# Altium schematic symbol library MCU_NXP_S08.SchLib: 189 symbols (part 1 of 3)
Pins are listed as number, name and electrical type; pins without a type are passive.

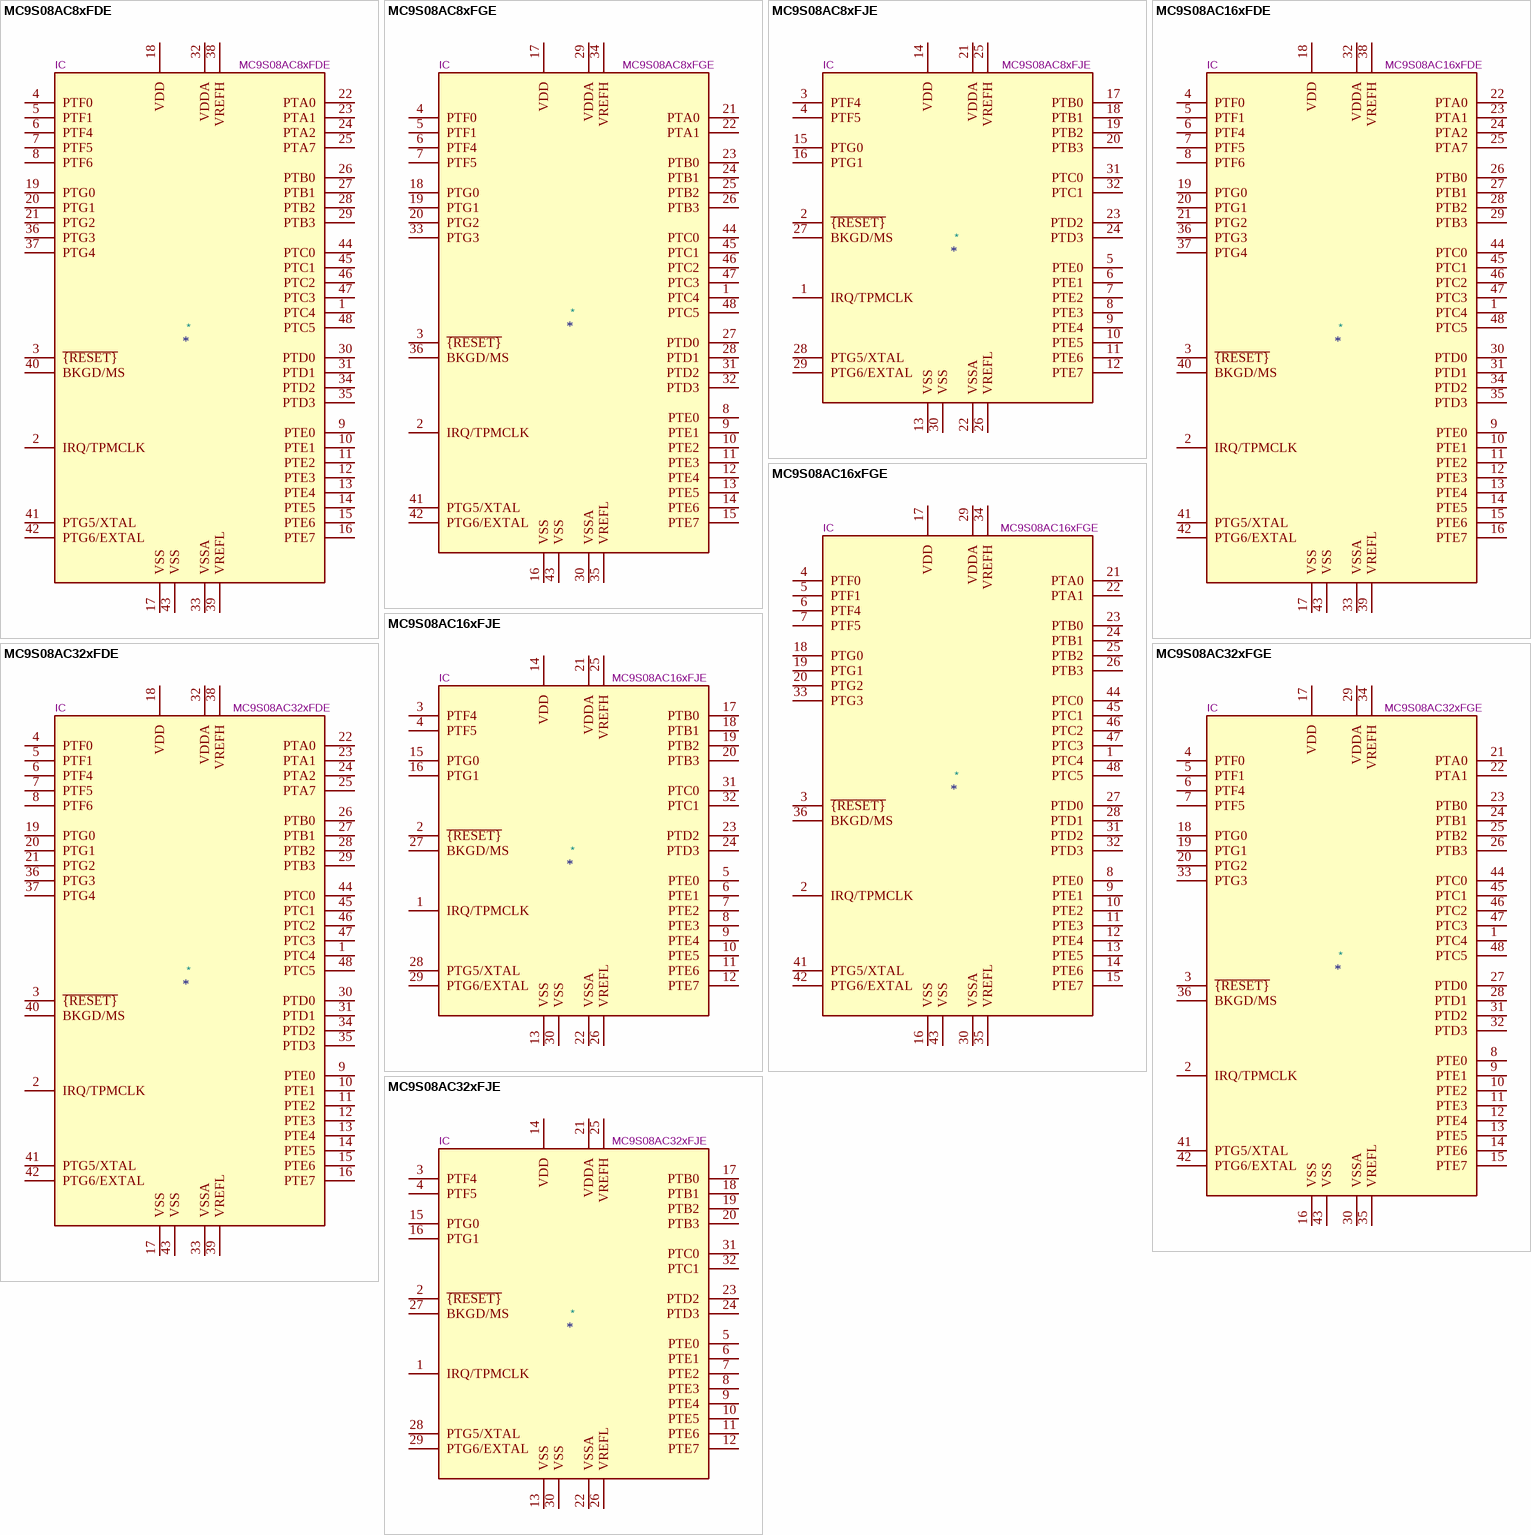
[diagram p0: symbols MC9S08AC8xFDE to MC9S08AC32xFJE]

## MC9S08AC8xFDE
designator *  value MC9S08AC8xFDE  Reference: IC
ki_keywords: NXP S08 Microcontroller; ki_description: 8-bit Flexis Microcontroller, S08 core, 8kB Flash, 768B RAM, QFN-48; ki_fp_filters: QFN*7x7mm*P0.5mm*; Footprint: Package_DFN_QFN:QFN-48-1EP_7x7mm_P0.5mm_EP5.15x5.15mm; Datasheet: https://www.nxp.com/docs/en/data-sheet/MC9S08AC16.pdf
pins: 1 PTC4, 2 IRQ/TPMCLK, 3 ~{{RESET}}, 4 PTF0, 5 PTF1, 6 PTF4, 7 PTF5, 8 PTF6, 9 PTE0, 10 PTE1, 11 PTE2, 12 PTE3, 13 PTE4, 14 PTE5, 15 PTE6, 16 PTE7, 17 VSS, 18 VDD, 19 PTG0, 20 PTG1, 21 PTG2, 22 PTA0, 23 PTA1, 24 PTA2, 25 PTA7, 26 PTB0, 27 PTB1, 28 PTB2, 29 PTB3, 30 PTD0, 31 PTD1, 32 VDDA, 33 VSSA, 34 PTD2, 35 PTD3, 36 PTG3, 37 PTG4, 38 VREFH, 39 VREFL, 40 BKGD/MS, 41 PTG5/XTAL, 42 PTG6/EXTAL, 43 VSS, 44 PTC0, 45 PTC1, 46 PTC2, 47 PTC3, 48 PTC5

## MC9S08AC8xFGE
designator *  value MC9S08AC8xFGE  Reference: IC
ki_keywords: NXP S08 Microcontroller; ki_description: 8-bit Flexis Microcontroller, S08 core, 8kB Flash, 768B RAM, LQFP-44; ki_fp_filters: LQFP*10x10mm*P0.8mm*; Footprint: Package_QFP:LQFP-44_10x10mm_P0.8mm; Datasheet: https://www.nxp.com/docs/en/data-sheet/MC9S08AC16.pdf
pins: 1 PTC4, 2 IRQ/TPMCLK, 3 ~{{RESET}}, 4 PTF0, 5 PTF1, 6 PTF4, 7 PTF5, 8 PTE0, 9 PTE1, 10 PTE2, 11 PTE3, 12 PTE4, 13 PTE5, 14 PTE6, 15 PTE7, 16 VSS, 17 VDD, 18 PTG0, 19 PTG1, 20 PTG2, 21 PTA0, 22 PTA1, 23 PTB0, 24 PTB1, 25 PTB2, 26 PTB3, 27 PTD0, 28 PTD1, 29 VDDA, 30 VSSA, 31 PTD2, 32 PTD3, 33 PTG3, 34 VREFH, 35 VREFL, 36 BKGD/MS, 41 PTG5/XTAL, 42 PTG6/EXTAL, 43 VSS, 44 PTC0, 45 PTC1, 46 PTC2, 47 PTC3, 48 PTC5

## MC9S08AC8xFJE
designator *  value MC9S08AC8xFJE  Reference: IC
ki_keywords: NXP S08 Microcontroller; ki_description: 8-bit Flexis Microcontroller, S08 core, 8kB Flash, 768B RAM, LQFP-32; ki_fp_filters: LQFP*7x7mm*P0.8mm*; Footprint: Package_QFP:LQFP-32_7x7mm_P0.8mm; Datasheet: https://www.nxp.com/docs/en/data-sheet/MC9S08AC16.pdf
pins: 1 IRQ/TPMCLK, 2 ~{{RESET}}, 3 PTF4, 4 PTF5, 5 PTE0, 6 PTE1, 7 PTE2, 8 PTE3, 9 PTE4, 10 PTE5, 11 PTE6, 12 PTE7, 13 VSS, 14 VDD, 15 PTG0, 16 PTG1, 17 PTB0, 18 PTB1, 19 PTB2, 20 PTB3, 21 VDDA, 22 VSSA, 23 PTD2, 24 PTD3, 25 VREFH, 26 VREFL, 27 BKGD/MS, 28 PTG5/XTAL, 29 PTG6/EXTAL, 30 VSS, 31 PTC0, 32 PTC1

## MC9S08AC16xFDE
designator *  value MC9S08AC16xFDE  Reference: IC
ki_keywords: NXP S08 Microcontroller; ki_description: 8-bit Flexis Microcontroller, S08 core, 16kB Flash, 1kB RAM, QFN-48; ki_fp_filters: QFN*7x7mm*P0.5mm*; Footprint: Package_DFN_QFN:QFN-48-1EP_7x7mm_P0.5mm_EP5.15x5.15mm; Datasheet: https://www.nxp.com/docs/en/data-sheet/MC9S08AC16.pdf
pins: 1 PTC4, 2 IRQ/TPMCLK, 3 ~{{RESET}}, 4 PTF0, 5 PTF1, 6 PTF4, 7 PTF5, 8 PTF6, 9 PTE0, 10 PTE1, 11 PTE2, 12 PTE3, 13 PTE4, 14 PTE5, 15 PTE6, 16 PTE7, 17 VSS, 18 VDD, 19 PTG0, 20 PTG1, 21 PTG2, 22 PTA0, 23 PTA1, 24 PTA2, 25 PTA7, 26 PTB0, 27 PTB1, 28 PTB2, 29 PTB3, 30 PTD0, 31 PTD1, 32 VDDA, 33 VSSA, 34 PTD2, 35 PTD3, 36 PTG3, 37 PTG4, 38 VREFH, 39 VREFL, 40 BKGD/MS, 41 PTG5/XTAL, 42 PTG6/EXTAL, 43 VSS, 44 PTC0, 45 PTC1, 46 PTC2, 47 PTC3, 48 PTC5

## MC9S08AC16xFGE
designator *  value MC9S08AC16xFGE  Reference: IC
ki_keywords: NXP S08 Microcontroller; ki_description: 8-bit Flexis Microcontroller, S08 core, 16kB Flash, 1kB RAM, LQFP-44; ki_fp_filters: LQFP*10x10mm*P0.8mm*; Footprint: Package_QFP:LQFP-44_10x10mm_P0.8mm; Datasheet: https://www.nxp.com/docs/en/data-sheet/MC9S08AC16.pdf
pins: 1 PTC4, 2 IRQ/TPMCLK, 3 ~{{RESET}}, 4 PTF0, 5 PTF1, 6 PTF4, 7 PTF5, 8 PTE0, 9 PTE1, 10 PTE2, 11 PTE3, 12 PTE4, 13 PTE5, 14 PTE6, 15 PTE7, 16 VSS, 17 VDD, 18 PTG0, 19 PTG1, 20 PTG2, 21 PTA0, 22 PTA1, 23 PTB0, 24 PTB1, 25 PTB2, 26 PTB3, 27 PTD0, 28 PTD1, 29 VDDA, 30 VSSA, 31 PTD2, 32 PTD3, 33 PTG3, 34 VREFH, 35 VREFL, 36 BKGD/MS, 41 PTG5/XTAL, 42 PTG6/EXTAL, 43 VSS, 44 PTC0, 45 PTC1, 46 PTC2, 47 PTC3, 48 PTC5

## MC9S08AC16xFJE
designator *  value MC9S08AC16xFJE  Reference: IC
ki_keywords: NXP S08 Microcontroller; ki_description: 8-bit Flexis Microcontroller, S08 core, 16kB Flash, 1kB RAM, LQFP-32; ki_fp_filters: LQFP*7x7mm*P0.8mm*; Footprint: Package_QFP:LQFP-32_7x7mm_P0.8mm; Datasheet: https://www.nxp.com/docs/en/data-sheet/MC9S08AC16.pdf
pins: 1 IRQ/TPMCLK, 2 ~{{RESET}}, 3 PTF4, 4 PTF5, 5 PTE0, 6 PTE1, 7 PTE2, 8 PTE3, 9 PTE4, 10 PTE5, 11 PTE6, 12 PTE7, 13 VSS, 14 VDD, 15 PTG0, 16 PTG1, 17 PTB0, 18 PTB1, 19 PTB2, 20 PTB3, 21 VDDA, 22 VSSA, 23 PTD2, 24 PTD3, 25 VREFH, 26 VREFL, 27 BKGD/MS, 28 PTG5/XTAL, 29 PTG6/EXTAL, 30 VSS, 31 PTC0, 32 PTC1

## MC9S08AC32xFDE
designator *  value MC9S08AC32xFDE  Reference: IC
ki_keywords: NXP S08 Microcontroller; ki_description: 8-bit Flexis Microcontroller, S08 core, 32kB Flash, 2kB RAM, QFN-48; ki_fp_filters: QFN*7x7mm*P0.5mm*; Footprint: Package_DFN_QFN:QFN-48-1EP_7x7mm_P0.5mm_EP5.15x5.15mm; Datasheet: https://www.nxp.com/docs/en/data-sheet/MC9S08AC60.pdf
pins: 1 PTC4, 2 IRQ/TPMCLK, 3 ~{{RESET}}, 4 PTF0, 5 PTF1, 6 PTF4, 7 PTF5, 8 PTF6, 9 PTE0, 10 PTE1, 11 PTE2, 12 PTE3, 13 PTE4, 14 PTE5, 15 PTE6, 16 PTE7, 17 VSS, 18 VDD, 19 PTG0, 20 PTG1, 21 PTG2, 22 PTA0, 23 PTA1, 24 PTA2, 25 PTA7, 26 PTB0, 27 PTB1, 28 PTB2, 29 PTB3, 30 PTD0, 31 PTD1, 32 VDDA, 33 VSSA, 34 PTD2, 35 PTD3, 36 PTG3, 37 PTG4, 38 VREFH, 39 VREFL, 40 BKGD/MS, 41 PTG5/XTAL, 42 PTG6/EXTAL, 43 VSS, 44 PTC0, 45 PTC1, 46 PTC2, 47 PTC3, 48 PTC5

## MC9S08AC32xFGE
designator *  value MC9S08AC32xFGE  Reference: IC
ki_keywords: NXP S08 Microcontroller; ki_description: 8-bit Flexis Microcontroller, S08 core, 32kB Flash, 2kB RAM, LQFP-44; ki_fp_filters: LQFP*10x10mm*P0.8mm*; Footprint: Package_QFP:LQFP-44_10x10mm_P0.8mm; Datasheet: https://www.nxp.com/docs/en/data-sheet/MC9S08AC60.pdf
pins: 1 PTC4, 2 IRQ/TPMCLK, 3 ~{{RESET}}, 4 PTF0, 5 PTF1, 6 PTF4, 7 PTF5, 8 PTE0, 9 PTE1, 10 PTE2, 11 PTE3, 12 PTE4, 13 PTE5, 14 PTE6, 15 PTE7, 16 VSS, 17 VDD, 18 PTG0, 19 PTG1, 20 PTG2, 21 PTA0, 22 PTA1, 23 PTB0, 24 PTB1, 25 PTB2, 26 PTB3, 27 PTD0, 28 PTD1, 29 VDDA, 30 VSSA, 31 PTD2, 32 PTD3, 33 PTG3, 34 VREFH, 35 VREFL, 36 BKGD/MS, 41 PTG5/XTAL, 42 PTG6/EXTAL, 43 VSS, 44 PTC0, 45 PTC1, 46 PTC2, 47 PTC3, 48 PTC5

## MC9S08AC32xFJE
designator *  value MC9S08AC32xFJE  Reference: IC
ki_keywords: NXP S08 Microcontroller; ki_description: 8-bit Flexis Microcontroller, S08 core, 32kB Flash, 2kB RAM, LQFP-32; ki_fp_filters: LQFP*7x7mm*P0.8mm*; Footprint: Package_QFP:LQFP-32_7x7mm_P0.8mm; Datasheet: https://www.nxp.com/docs/en/data-sheet/MC9S08AC60.pdf
pins: 1 IRQ/TPMCLK, 2 ~{{RESET}}, 3 PTF4, 4 PTF5, 5 PTE0, 6 PTE1, 7 PTE2, 8 PTE3, 9 PTE4, 10 PTE5, 11 PTE6, 12 PTE7, 13 VSS, 14 VDD, 15 PTG0, 16 PTG1, 17 PTB0, 18 PTB1, 19 PTB2, 20 PTB3, 21 VDDA, 22 VSSA, 23 PTD2, 24 PTD3, 25 VREFH, 26 VREFL, 27 BKGD/MS, 28 PTG5/XTAL, 29 PTG6/EXTAL, 30 VSS, 31 PTC0, 32 PTC1

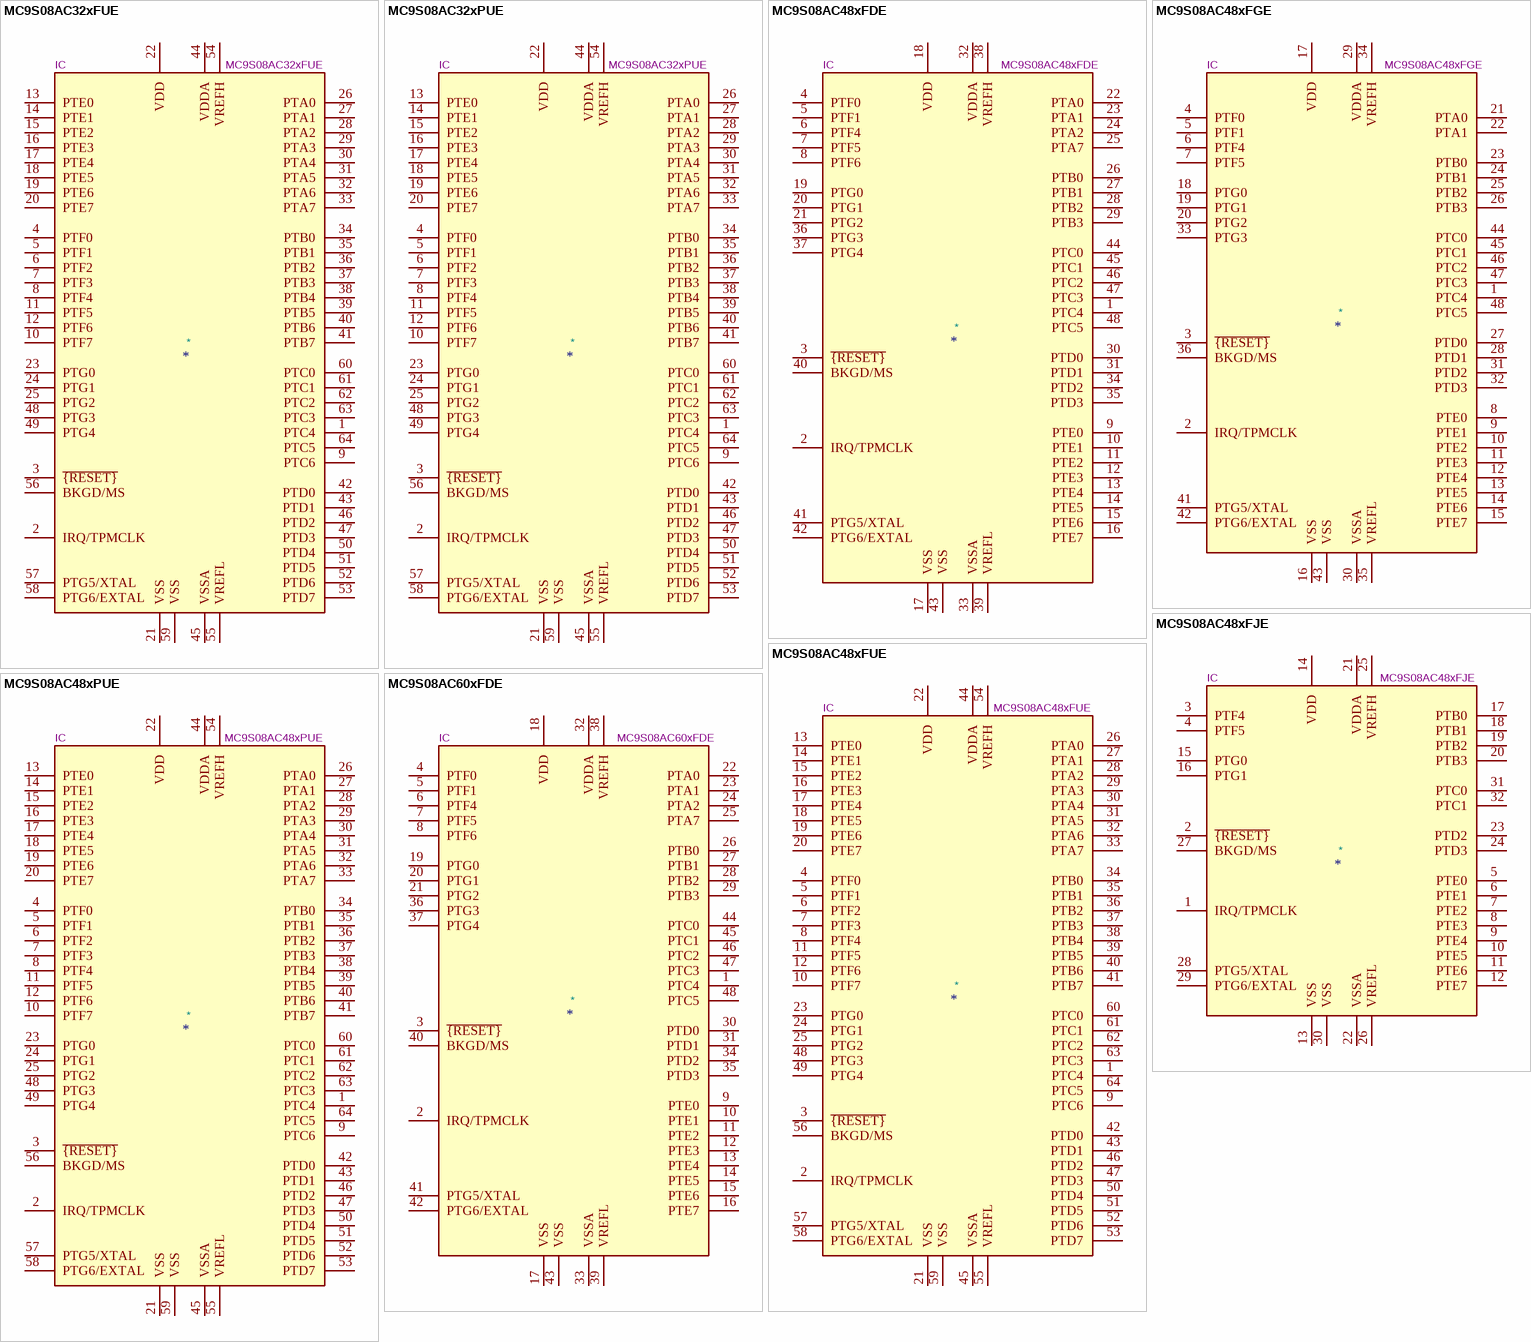
[diagram p1: symbols MC9S08AC32xFUE to MC9S08AC60xFDE]

## MC9S08AC32xFUE
designator *  value MC9S08AC32xFUE  Reference: IC
ki_keywords: NXP S08 Microcontroller; ki_description: 8-bit Flexis Microcontroller, S08 core, 32kB Flash, 2kB RAM, LQFP-64; ki_fp_filters: LQFP*14x14mm*P0.8mm*; Footprint: Package_QFP:LQFP-64_14x14mm_P0.8mm; Datasheet: https://www.nxp.com/docs/en/data-sheet/MC9S08AC60.pdf
pins: 1 PTC4, 2 IRQ/TPMCLK, 3 ~{{RESET}}, 4 PTF0, 5 PTF1, 6 PTF2, 7 PTF3, 8 PTF4, 9 PTC6, 10 PTF7, 11 PTF5, 12 PTF6, 13 PTE0, 14 PTE1, 15 PTE2, 16 PTE3, 17 PTE4, 18 PTE5, 19 PTE6, 20 PTE7, 21 VSS, 22 VDD, 23 PTG0, 24 PTG1, 25 PTG2, 26 PTA0, 27 PTA1, 28 PTA2, 29 PTA3, 30 PTA4, 31 PTA5, 32 PTA6, 33 PTA7, 34 PTB0, 35 PTB1, 36 PTB2, 37 PTB3, 38 PTB4, 39 PTB5, 40 PTB6, 41 PTB7, 42 PTD0, 43 PTD1, 44 VDDA, 45 VSSA, 46 PTD2, 47 PTD3, 48 PTG3, 49 PTG4, 50 PTD4, 51 PTD5, 52 PTD6, 53 PTD7, 54 VREFH, 55 VREFL, 56 BKGD/MS, 57 PTG5/XTAL, 58 PTG6/EXTAL, 59 VSS, 60 PTC0, 61 PTC1, 62 PTC2, 63 PTC3, 64 PTC5

## MC9S08AC32xPUE
designator *  value MC9S08AC32xPUE  Reference: IC
ki_keywords: NXP S08 Microcontroller; ki_description: 8-bit Flexis Microcontroller, S08 core, 32kB Flash, 2kB RAM, LQFP-64; ki_fp_filters: LQFP*10x10mm*P0.5mm*; Footprint: Package_QFP:LQFP-64_10x10mm_P0.5mm; Datasheet: https://www.nxp.com/docs/en/data-sheet/MC9S08AC60.pdf
pins: 1 PTC4, 2 IRQ/TPMCLK, 3 ~{{RESET}}, 4 PTF0, 5 PTF1, 6 PTF2, 7 PTF3, 8 PTF4, 9 PTC6, 10 PTF7, 11 PTF5, 12 PTF6, 13 PTE0, 14 PTE1, 15 PTE2, 16 PTE3, 17 PTE4, 18 PTE5, 19 PTE6, 20 PTE7, 21 VSS, 22 VDD, 23 PTG0, 24 PTG1, 25 PTG2, 26 PTA0, 27 PTA1, 28 PTA2, 29 PTA3, 30 PTA4, 31 PTA5, 32 PTA6, 33 PTA7, 34 PTB0, 35 PTB1, 36 PTB2, 37 PTB3, 38 PTB4, 39 PTB5, 40 PTB6, 41 PTB7, 42 PTD0, 43 PTD1, 44 VDDA, 45 VSSA, 46 PTD2, 47 PTD3, 48 PTG3, 49 PTG4, 50 PTD4, 51 PTD5, 52 PTD6, 53 PTD7, 54 VREFH, 55 VREFL, 56 BKGD/MS, 57 PTG5/XTAL, 58 PTG6/EXTAL, 59 VSS, 60 PTC0, 61 PTC1, 62 PTC2, 63 PTC3, 64 PTC5

## MC9S08AC48xFDE
designator *  value MC9S08AC48xFDE  Reference: IC
ki_keywords: NXP S08 Microcontroller; ki_description: 8-bit Flexis Microcontroller, S08 core, 48kB Flash, 2kB RAM, QFN-48; ki_fp_filters: QFN*7x7mm*P0.5mm*; Footprint: Package_DFN_QFN:QFN-48-1EP_7x7mm_P0.5mm_EP5.15x5.15mm; Datasheet: https://www.nxp.com/docs/en/data-sheet/MC9S08AC60.pdf
pins: 1 PTC4, 2 IRQ/TPMCLK, 3 ~{{RESET}}, 4 PTF0, 5 PTF1, 6 PTF4, 7 PTF5, 8 PTF6, 9 PTE0, 10 PTE1, 11 PTE2, 12 PTE3, 13 PTE4, 14 PTE5, 15 PTE6, 16 PTE7, 17 VSS, 18 VDD, 19 PTG0, 20 PTG1, 21 PTG2, 22 PTA0, 23 PTA1, 24 PTA2, 25 PTA7, 26 PTB0, 27 PTB1, 28 PTB2, 29 PTB3, 30 PTD0, 31 PTD1, 32 VDDA, 33 VSSA, 34 PTD2, 35 PTD3, 36 PTG3, 37 PTG4, 38 VREFH, 39 VREFL, 40 BKGD/MS, 41 PTG5/XTAL, 42 PTG6/EXTAL, 43 VSS, 44 PTC0, 45 PTC1, 46 PTC2, 47 PTC3, 48 PTC5

## MC9S08AC48xFGE
designator *  value MC9S08AC48xFGE  Reference: IC
ki_keywords: NXP S08 Microcontroller; ki_description: 8-bit Flexis Microcontroller, S08 core, 48kB Flash, 2kB RAM, LQFP-44; ki_fp_filters: LQFP*10x10mm*P0.8mm*; Footprint: Package_QFP:LQFP-44_10x10mm_P0.8mm; Datasheet: https://www.nxp.com/docs/en/data-sheet/MC9S08AC60.pdf
pins: 1 PTC4, 2 IRQ/TPMCLK, 3 ~{{RESET}}, 4 PTF0, 5 PTF1, 6 PTF4, 7 PTF5, 8 PTE0, 9 PTE1, 10 PTE2, 11 PTE3, 12 PTE4, 13 PTE5, 14 PTE6, 15 PTE7, 16 VSS, 17 VDD, 18 PTG0, 19 PTG1, 20 PTG2, 21 PTA0, 22 PTA1, 23 PTB0, 24 PTB1, 25 PTB2, 26 PTB3, 27 PTD0, 28 PTD1, 29 VDDA, 30 VSSA, 31 PTD2, 32 PTD3, 33 PTG3, 34 VREFH, 35 VREFL, 36 BKGD/MS, 41 PTG5/XTAL, 42 PTG6/EXTAL, 43 VSS, 44 PTC0, 45 PTC1, 46 PTC2, 47 PTC3, 48 PTC5

## MC9S08AC48xFJE
designator *  value MC9S08AC48xFJE  Reference: IC
ki_keywords: NXP S08 Microcontroller; ki_description: 8-bit Flexis Microcontroller, S08 core, 48kB Flash, 2kB RAM, LQFP-32; ki_fp_filters: LQFP*7x7mm*P0.8mm*; Footprint: Package_QFP:LQFP-32_7x7mm_P0.8mm; Datasheet: https://www.nxp.com/docs/en/data-sheet/MC9S08AC60.pdf
pins: 1 IRQ/TPMCLK, 2 ~{{RESET}}, 3 PTF4, 4 PTF5, 5 PTE0, 6 PTE1, 7 PTE2, 8 PTE3, 9 PTE4, 10 PTE5, 11 PTE6, 12 PTE7, 13 VSS, 14 VDD, 15 PTG0, 16 PTG1, 17 PTB0, 18 PTB1, 19 PTB2, 20 PTB3, 21 VDDA, 22 VSSA, 23 PTD2, 24 PTD3, 25 VREFH, 26 VREFL, 27 BKGD/MS, 28 PTG5/XTAL, 29 PTG6/EXTAL, 30 VSS, 31 PTC0, 32 PTC1

## MC9S08AC48xFUE
designator *  value MC9S08AC48xFUE  Reference: IC
ki_keywords: NXP S08 Microcontroller; ki_description: 8-bit Flexis Microcontroller, S08 core, 48kB Flash, 2kB RAM, LQFP-64; ki_fp_filters: LQFP*14x14mm*P0.8mm*; Footprint: Package_QFP:LQFP-64_14x14mm_P0.8mm; Datasheet: https://www.nxp.com/docs/en/data-sheet/MC9S08AC60.pdf
pins: 1 PTC4, 2 IRQ/TPMCLK, 3 ~{{RESET}}, 4 PTF0, 5 PTF1, 6 PTF2, 7 PTF3, 8 PTF4, 9 PTC6, 10 PTF7, 11 PTF5, 12 PTF6, 13 PTE0, 14 PTE1, 15 PTE2, 16 PTE3, 17 PTE4, 18 PTE5, 19 PTE6, 20 PTE7, 21 VSS, 22 VDD, 23 PTG0, 24 PTG1, 25 PTG2, 26 PTA0, 27 PTA1, 28 PTA2, 29 PTA3, 30 PTA4, 31 PTA5, 32 PTA6, 33 PTA7, 34 PTB0, 35 PTB1, 36 PTB2, 37 PTB3, 38 PTB4, 39 PTB5, 40 PTB6, 41 PTB7, 42 PTD0, 43 PTD1, 44 VDDA, 45 VSSA, 46 PTD2, 47 PTD3, 48 PTG3, 49 PTG4, 50 PTD4, 51 PTD5, 52 PTD6, 53 PTD7, 54 VREFH, 55 VREFL, 56 BKGD/MS, 57 PTG5/XTAL, 58 PTG6/EXTAL, 59 VSS, 60 PTC0, 61 PTC1, 62 PTC2, 63 PTC3, 64 PTC5

## MC9S08AC48xPUE
designator *  value MC9S08AC48xPUE  Reference: IC
ki_keywords: NXP S08 Microcontroller; ki_description: 8-bit Flexis Microcontroller, S08 core, 48kB Flash, 2kB RAM, LQFP-64; ki_fp_filters: LQFP*10x10mm*P0.5mm*; Footprint: Package_QFP:LQFP-64_10x10mm_P0.5mm; Datasheet: https://www.nxp.com/docs/en/data-sheet/MC9S08AC60.pdf
pins: 1 PTC4, 2 IRQ/TPMCLK, 3 ~{{RESET}}, 4 PTF0, 5 PTF1, 6 PTF2, 7 PTF3, 8 PTF4, 9 PTC6, 10 PTF7, 11 PTF5, 12 PTF6, 13 PTE0, 14 PTE1, 15 PTE2, 16 PTE3, 17 PTE4, 18 PTE5, 19 PTE6, 20 PTE7, 21 VSS, 22 VDD, 23 PTG0, 24 PTG1, 25 PTG2, 26 PTA0, 27 PTA1, 28 PTA2, 29 PTA3, 30 PTA4, 31 PTA5, 32 PTA6, 33 PTA7, 34 PTB0, 35 PTB1, 36 PTB2, 37 PTB3, 38 PTB4, 39 PTB5, 40 PTB6, 41 PTB7, 42 PTD0, 43 PTD1, 44 VDDA, 45 VSSA, 46 PTD2, 47 PTD3, 48 PTG3, 49 PTG4, 50 PTD4, 51 PTD5, 52 PTD6, 53 PTD7, 54 VREFH, 55 VREFL, 56 BKGD/MS, 57 PTG5/XTAL, 58 PTG6/EXTAL, 59 VSS, 60 PTC0, 61 PTC1, 62 PTC2, 63 PTC3, 64 PTC5

## MC9S08AC60xFDE
designator *  value MC9S08AC60xFDE  Reference: IC
ki_keywords: NXP S08 Microcontroller; ki_description: 8-bit Flexis Microcontroller, S08 core, 60kB Flash, 2kB RAM, QFN-48; ki_fp_filters: QFN*7x7mm*P0.5mm*; Footprint: Package_DFN_QFN:QFN-48-1EP_7x7mm_P0.5mm_EP5.15x5.15mm; Datasheet: https://www.nxp.com/docs/en/data-sheet/MC9S08AC60.pdf
pins: 1 PTC4, 2 IRQ/TPMCLK, 3 ~{{RESET}}, 4 PTF0, 5 PTF1, 6 PTF4, 7 PTF5, 8 PTF6, 9 PTE0, 10 PTE1, 11 PTE2, 12 PTE3, 13 PTE4, 14 PTE5, 15 PTE6, 16 PTE7, 17 VSS, 18 VDD, 19 PTG0, 20 PTG1, 21 PTG2, 22 PTA0, 23 PTA1, 24 PTA2, 25 PTA7, 26 PTB0, 27 PTB1, 28 PTB2, 29 PTB3, 30 PTD0, 31 PTD1, 32 VDDA, 33 VSSA, 34 PTD2, 35 PTD3, 36 PTG3, 37 PTG4, 38 VREFH, 39 VREFL, 40 BKGD/MS, 41 PTG5/XTAL, 42 PTG6/EXTAL, 43 VSS, 44 PTC0, 45 PTC1, 46 PTC2, 47 PTC3, 48 PTC5

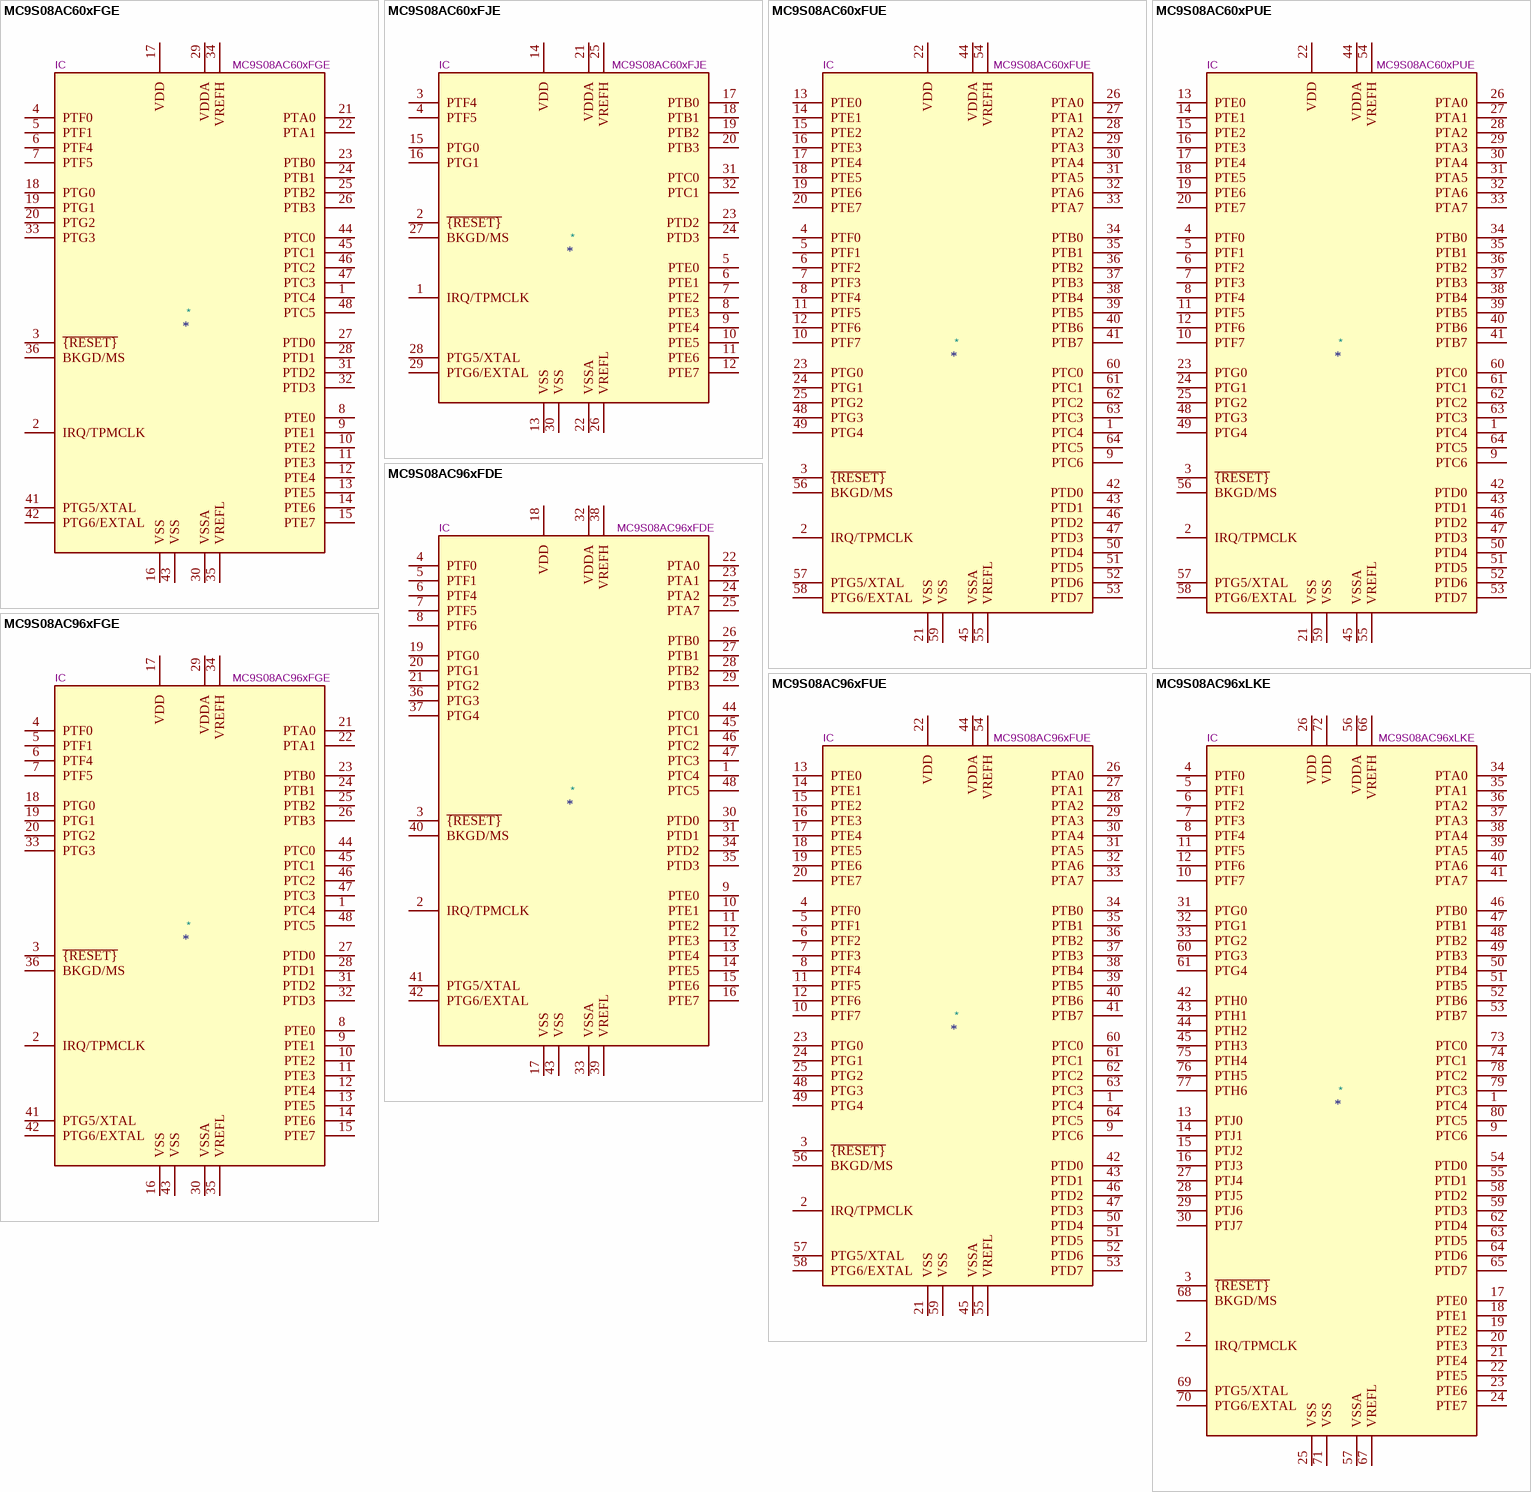
[diagram p2: symbols MC9S08AC60xFGE to MC9S08AC96xLKE]

## MC9S08AC60xFGE
designator *  value MC9S08AC60xFGE  Reference: IC
ki_keywords: NXP S08 Microcontroller; ki_description: 8-bit Flexis Microcontroller, S08 core, 60kB Flash, 2kB RAM, LQFP-44; ki_fp_filters: LQFP*10x10mm*P0.8mm*; Footprint: Package_QFP:LQFP-44_10x10mm_P0.8mm; Datasheet: https://www.nxp.com/docs/en/data-sheet/MC9S08AC60.pdf
pins: 1 PTC4, 2 IRQ/TPMCLK, 3 ~{{RESET}}, 4 PTF0, 5 PTF1, 6 PTF4, 7 PTF5, 8 PTE0, 9 PTE1, 10 PTE2, 11 PTE3, 12 PTE4, 13 PTE5, 14 PTE6, 15 PTE7, 16 VSS, 17 VDD, 18 PTG0, 19 PTG1, 20 PTG2, 21 PTA0, 22 PTA1, 23 PTB0, 24 PTB1, 25 PTB2, 26 PTB3, 27 PTD0, 28 PTD1, 29 VDDA, 30 VSSA, 31 PTD2, 32 PTD3, 33 PTG3, 34 VREFH, 35 VREFL, 36 BKGD/MS, 41 PTG5/XTAL, 42 PTG6/EXTAL, 43 VSS, 44 PTC0, 45 PTC1, 46 PTC2, 47 PTC3, 48 PTC5

## MC9S08AC60xFJE
designator *  value MC9S08AC60xFJE  Reference: IC
ki_keywords: NXP S08 Microcontroller; ki_description: 8-bit Flexis Microcontroller, S08 core, 60kB Flash, 2kB RAM, LQFP-32; ki_fp_filters: LQFP*7x7mm*P0.8mm*; Footprint: Package_QFP:LQFP-32_7x7mm_P0.8mm; Datasheet: https://www.nxp.com/docs/en/data-sheet/MC9S08AC60.pdf
pins: 1 IRQ/TPMCLK, 2 ~{{RESET}}, 3 PTF4, 4 PTF5, 5 PTE0, 6 PTE1, 7 PTE2, 8 PTE3, 9 PTE4, 10 PTE5, 11 PTE6, 12 PTE7, 13 VSS, 14 VDD, 15 PTG0, 16 PTG1, 17 PTB0, 18 PTB1, 19 PTB2, 20 PTB3, 21 VDDA, 22 VSSA, 23 PTD2, 24 PTD3, 25 VREFH, 26 VREFL, 27 BKGD/MS, 28 PTG5/XTAL, 29 PTG6/EXTAL, 30 VSS, 31 PTC0, 32 PTC1

## MC9S08AC60xFUE
designator *  value MC9S08AC60xFUE  Reference: IC
ki_keywords: NXP S08 Microcontroller; ki_description: 8-bit Flexis Microcontroller, S08 core, 60kB Flash, 2kB RAM, LQFP-64; ki_fp_filters: LQFP*14x14mm*P0.8mm*; Footprint: Package_QFP:LQFP-64_14x14mm_P0.8mm; Datasheet: https://www.nxp.com/docs/en/data-sheet/MC9S08AC60.pdf
pins: 1 PTC4, 2 IRQ/TPMCLK, 3 ~{{RESET}}, 4 PTF0, 5 PTF1, 6 PTF2, 7 PTF3, 8 PTF4, 9 PTC6, 10 PTF7, 11 PTF5, 12 PTF6, 13 PTE0, 14 PTE1, 15 PTE2, 16 PTE3, 17 PTE4, 18 PTE5, 19 PTE6, 20 PTE7, 21 VSS, 22 VDD, 23 PTG0, 24 PTG1, 25 PTG2, 26 PTA0, 27 PTA1, 28 PTA2, 29 PTA3, 30 PTA4, 31 PTA5, 32 PTA6, 33 PTA7, 34 PTB0, 35 PTB1, 36 PTB2, 37 PTB3, 38 PTB4, 39 PTB5, 40 PTB6, 41 PTB7, 42 PTD0, 43 PTD1, 44 VDDA, 45 VSSA, 46 PTD2, 47 PTD3, 48 PTG3, 49 PTG4, 50 PTD4, 51 PTD5, 52 PTD6, 53 PTD7, 54 VREFH, 55 VREFL, 56 BKGD/MS, 57 PTG5/XTAL, 58 PTG6/EXTAL, 59 VSS, 60 PTC0, 61 PTC1, 62 PTC2, 63 PTC3, 64 PTC5

## MC9S08AC60xPUE
designator *  value MC9S08AC60xPUE  Reference: IC
ki_keywords: NXP S08 Microcontroller; ki_description: 8-bit Flexis Microcontroller, S08 core, 60kB Flash, 2kB RAM, LQFP-64; ki_fp_filters: LQFP*10x10mm*P0.5mm*; Footprint: Package_QFP:LQFP-64_10x10mm_P0.5mm; Datasheet: https://www.nxp.com/docs/en/data-sheet/MC9S08AC60.pdf
pins: 1 PTC4, 2 IRQ/TPMCLK, 3 ~{{RESET}}, 4 PTF0, 5 PTF1, 6 PTF2, 7 PTF3, 8 PTF4, 9 PTC6, 10 PTF7, 11 PTF5, 12 PTF6, 13 PTE0, 14 PTE1, 15 PTE2, 16 PTE3, 17 PTE4, 18 PTE5, 19 PTE6, 20 PTE7, 21 VSS, 22 VDD, 23 PTG0, 24 PTG1, 25 PTG2, 26 PTA0, 27 PTA1, 28 PTA2, 29 PTA3, 30 PTA4, 31 PTA5, 32 PTA6, 33 PTA7, 34 PTB0, 35 PTB1, 36 PTB2, 37 PTB3, 38 PTB4, 39 PTB5, 40 PTB6, 41 PTB7, 42 PTD0, 43 PTD1, 44 VDDA, 45 VSSA, 46 PTD2, 47 PTD3, 48 PTG3, 49 PTG4, 50 PTD4, 51 PTD5, 52 PTD6, 53 PTD7, 54 VREFH, 55 VREFL, 56 BKGD/MS, 57 PTG5/XTAL, 58 PTG6/EXTAL, 59 VSS, 60 PTC0, 61 PTC1, 62 PTC2, 63 PTC3, 64 PTC5

## MC9S08AC96xFDE
designator *  value MC9S08AC96xFDE  Reference: IC
ki_keywords: NXP S08 Microcontroller; ki_description: 8-bit Flexis Microcontroller, S08 core, 96kB Flash, 6kB RAM, QFN-48; ki_fp_filters: QFN*7x7mm*P0.5mm*; Footprint: Package_DFN_QFN:QFN-48-1EP_7x7mm_P0.5mm_EP5.15x5.15mm; Datasheet: https://www.nxp.com/docs/en/data-sheet/MC9S08AC128.pdf
pins: 1 PTC4, 2 IRQ/TPMCLK, 3 ~{{RESET}}, 4 PTF0, 5 PTF1, 6 PTF4, 7 PTF5, 8 PTF6, 9 PTE0, 10 PTE1, 11 PTE2, 12 PTE3, 13 PTE4, 14 PTE5, 15 PTE6, 16 PTE7, 17 VSS, 18 VDD, 19 PTG0, 20 PTG1, 21 PTG2, 22 PTA0, 23 PTA1, 24 PTA2, 25 PTA7, 26 PTB0, 27 PTB1, 28 PTB2, 29 PTB3, 30 PTD0, 31 PTD1, 32 VDDA, 33 VSSA, 34 PTD2, 35 PTD3, 36 PTG3, 37 PTG4, 38 VREFH, 39 VREFL, 40 BKGD/MS, 41 PTG5/XTAL, 42 PTG6/EXTAL, 43 VSS, 44 PTC0, 45 PTC1, 46 PTC2, 47 PTC3, 48 PTC5

## MC9S08AC96xFGE
designator *  value MC9S08AC96xFGE  Reference: IC
ki_keywords: NXP S08 Microcontroller; ki_description: 8-bit Flexis Microcontroller, S08 core, 96kB Flash, 6kB RAM, LQFP-44; ki_fp_filters: LQFP*10x10mm*P0.8mm*; Footprint: Package_QFP:LQFP-44_10x10mm_P0.8mm; Datasheet: https://www.nxp.com/docs/en/data-sheet/MC9S08AC128.pdf
pins: 1 PTC4, 2 IRQ/TPMCLK, 3 ~{{RESET}}, 4 PTF0, 5 PTF1, 6 PTF4, 7 PTF5, 8 PTE0, 9 PTE1, 10 PTE2, 11 PTE3, 12 PTE4, 13 PTE5, 14 PTE6, 15 PTE7, 16 VSS, 17 VDD, 18 PTG0, 19 PTG1, 20 PTG2, 21 PTA0, 22 PTA1, 23 PTB0, 24 PTB1, 25 PTB2, 26 PTB3, 27 PTD0, 28 PTD1, 29 VDDA, 30 VSSA, 31 PTD2, 32 PTD3, 33 PTG3, 34 VREFH, 35 VREFL, 36 BKGD/MS, 41 PTG5/XTAL, 42 PTG6/EXTAL, 43 VSS, 44 PTC0, 45 PTC1, 46 PTC2, 47 PTC3, 48 PTC5

## MC9S08AC96xFUE
designator *  value MC9S08AC96xFUE  Reference: IC
ki_keywords: NXP S08 Microcontroller; ki_description: 8-bit Flexis Microcontroller, S08 core, 96kB Flash, 6kB RAM, LQFP-64; ki_fp_filters: LQFP*14x14mm*P0.8mm*; Footprint: Package_QFP:LQFP-64_14x14mm_P0.8mm; Datasheet: https://www.nxp.com/docs/en/data-sheet/MC9S08AC128.pdf
pins: 1 PTC4, 2 IRQ/TPMCLK, 3 ~{{RESET}}, 4 PTF0, 5 PTF1, 6 PTF2, 7 PTF3, 8 PTF4, 9 PTC6, 10 PTF7, 11 PTF5, 12 PTF6, 13 PTE0, 14 PTE1, 15 PTE2, 16 PTE3, 17 PTE4, 18 PTE5, 19 PTE6, 20 PTE7, 21 VSS, 22 VDD, 23 PTG0, 24 PTG1, 25 PTG2, 26 PTA0, 27 PTA1, 28 PTA2, 29 PTA3, 30 PTA4, 31 PTA5, 32 PTA6, 33 PTA7, 34 PTB0, 35 PTB1, 36 PTB2, 37 PTB3, 38 PTB4, 39 PTB5, 40 PTB6, 41 PTB7, 42 PTD0, 43 PTD1, 44 VDDA, 45 VSSA, 46 PTD2, 47 PTD3, 48 PTG3, 49 PTG4, 50 PTD4, 51 PTD5, 52 PTD6, 53 PTD7, 54 VREFH, 55 VREFL, 56 BKGD/MS, 57 PTG5/XTAL, 58 PTG6/EXTAL, 59 VSS, 60 PTC0, 61 PTC1, 62 PTC2, 63 PTC3, 64 PTC5

## MC9S08AC96xLKE
designator *  value MC9S08AC96xLKE  Reference: IC
ki_keywords: NXP S08 Microcontroller; ki_description: 8-bit Flexis Microcontroller, S08 core, 96kB Flash, 6kB RAM, LQFP-80; ki_fp_filters: LQFP*12x12mm*P0.5mm*; Footprint: Package_QFP:LQFP-80_12x12mm_P0.5mm; Datasheet: https://www.nxp.com/docs/en/data-sheet/MC9S08AC128.pdf
pins: 1 PTC4, 2 IRQ/TPMCLK, 3 ~{{RESET}}, 4 PTF0, 5 PTF1, 6 PTF2, 7 PTF3, 8 PTF4, 9 PTC6, 10 PTF7, 11 PTF5, 12 PTF6, 13 PTJ0, 14 PTJ1, 15 PTJ2, 16 PTJ3, 17 PTE0, 18 PTE1, 19 PTE2, 20 PTE3, 21 PTE4, 22 PTE5, 23 PTE6, 24 PTE7, 25 VSS, 26 VDD, 27 PTJ4, 28 PTJ5, 29 PTJ6, 30 PTJ7, 31 PTG0, 32 PTG1, 33 PTG2, 34 PTA0, 35 PTA1, 36 PTA2, 37 PTA3, 38 PTA4, 39 PTA5, 40 PTA6, 41 PTA7, 42 PTH0, 43 PTH1, 44 PTH2, 45 PTH3, 46 PTB0, 47 PTB1, 48 PTB2, 49 PTB3, 50 PTB4, 51 PTB5, 52 PTB6, 53 PTB7, 54 PTD0, 55 PTD1, 56 VDDA, 57 VSSA, 58 PTD2, 59 PTD3, 60 PTG3, 61 PTG4, 62 PTD4, 63 PTD5, 64 PTD6, 65 PTD7, 66 VREFH, 67 VREFL, 68 BKGD/MS, 69 PTG5/XTAL, 70 PTG6/EXTAL, 71 VSS, 72 VDD, 73 PTC0, 74 PTC1, 75 PTH4, 76 PTH5, 77 PTH6, 78 PTC2, 79 PTC3, 80 PTC5

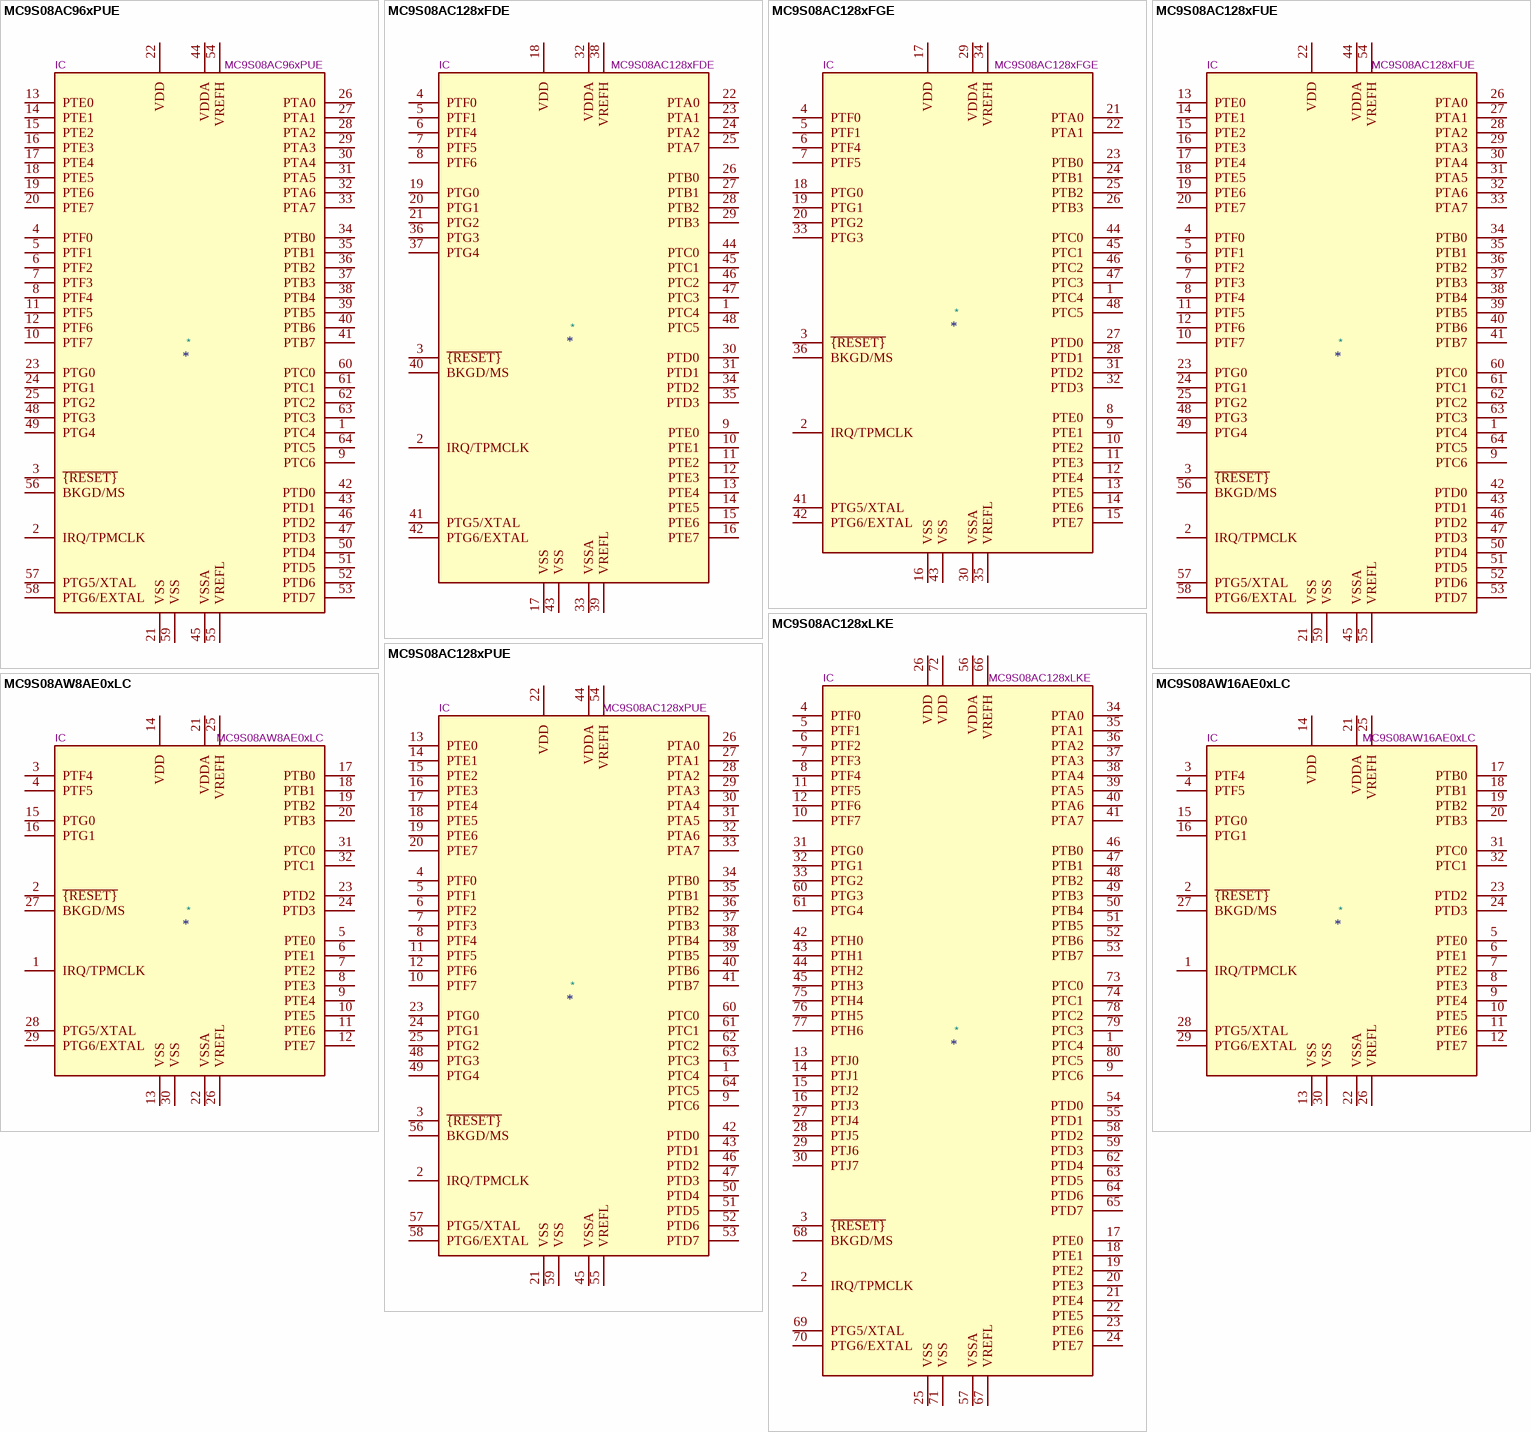
[diagram p3: symbols MC9S08AC96xPUE to MC9S08AW16AE0xLC]

## MC9S08AC96xPUE
designator *  value MC9S08AC96xPUE  Reference: IC
ki_keywords: NXP S08 Microcontroller; ki_description: 8-bit Flexis Microcontroller, S08 core, 96kB Flash, 6kB RAM, LQFP-64; ki_fp_filters: LQFP*10x10mm*P0.5mm*; Footprint: Package_QFP:LQFP-64_10x10mm_P0.5mm; Datasheet: https://www.nxp.com/docs/en/data-sheet/MC9S08AC128.pdf
pins: 1 PTC4, 2 IRQ/TPMCLK, 3 ~{{RESET}}, 4 PTF0, 5 PTF1, 6 PTF2, 7 PTF3, 8 PTF4, 9 PTC6, 10 PTF7, 11 PTF5, 12 PTF6, 13 PTE0, 14 PTE1, 15 PTE2, 16 PTE3, 17 PTE4, 18 PTE5, 19 PTE6, 20 PTE7, 21 VSS, 22 VDD, 23 PTG0, 24 PTG1, 25 PTG2, 26 PTA0, 27 PTA1, 28 PTA2, 29 PTA3, 30 PTA4, 31 PTA5, 32 PTA6, 33 PTA7, 34 PTB0, 35 PTB1, 36 PTB2, 37 PTB3, 38 PTB4, 39 PTB5, 40 PTB6, 41 PTB7, 42 PTD0, 43 PTD1, 44 VDDA, 45 VSSA, 46 PTD2, 47 PTD3, 48 PTG3, 49 PTG4, 50 PTD4, 51 PTD5, 52 PTD6, 53 PTD7, 54 VREFH, 55 VREFL, 56 BKGD/MS, 57 PTG5/XTAL, 58 PTG6/EXTAL, 59 VSS, 60 PTC0, 61 PTC1, 62 PTC2, 63 PTC3, 64 PTC5

## MC9S08AC128xFDE
designator *  value MC9S08AC128xFDE  Reference: IC
ki_keywords: NXP S08 Microcontroller; ki_description: 8-bit Flexis Microcontroller, S08 core, 128kB Flash, 8kB RAM, QFN-48; ki_fp_filters: QFN*7x7mm*P0.5mm*; Footprint: Package_DFN_QFN:QFN-48-1EP_7x7mm_P0.5mm_EP5.15x5.15mm; Datasheet: https://www.nxp.com/docs/en/data-sheet/MC9S08AC128.pdf
pins: 1 PTC4, 2 IRQ/TPMCLK, 3 ~{{RESET}}, 4 PTF0, 5 PTF1, 6 PTF4, 7 PTF5, 8 PTF6, 9 PTE0, 10 PTE1, 11 PTE2, 12 PTE3, 13 PTE4, 14 PTE5, 15 PTE6, 16 PTE7, 17 VSS, 18 VDD, 19 PTG0, 20 PTG1, 21 PTG2, 22 PTA0, 23 PTA1, 24 PTA2, 25 PTA7, 26 PTB0, 27 PTB1, 28 PTB2, 29 PTB3, 30 PTD0, 31 PTD1, 32 VDDA, 33 VSSA, 34 PTD2, 35 PTD3, 36 PTG3, 37 PTG4, 38 VREFH, 39 VREFL, 40 BKGD/MS, 41 PTG5/XTAL, 42 PTG6/EXTAL, 43 VSS, 44 PTC0, 45 PTC1, 46 PTC2, 47 PTC3, 48 PTC5

## MC9S08AC128xFGE
designator *  value MC9S08AC128xFGE  Reference: IC
ki_keywords: NXP S08 Microcontroller; ki_description: 8-bit Flexis Microcontroller, S08 core, 128kB Flash, 8kB RAM, LQFP-44; ki_fp_filters: LQFP*10x10mm*P0.8mm*; Footprint: Package_QFP:LQFP-44_10x10mm_P0.8mm; Datasheet: https://www.nxp.com/docs/en/data-sheet/MC9S08AC128.pdf
pins: 1 PTC4, 2 IRQ/TPMCLK, 3 ~{{RESET}}, 4 PTF0, 5 PTF1, 6 PTF4, 7 PTF5, 8 PTE0, 9 PTE1, 10 PTE2, 11 PTE3, 12 PTE4, 13 PTE5, 14 PTE6, 15 PTE7, 16 VSS, 17 VDD, 18 PTG0, 19 PTG1, 20 PTG2, 21 PTA0, 22 PTA1, 23 PTB0, 24 PTB1, 25 PTB2, 26 PTB3, 27 PTD0, 28 PTD1, 29 VDDA, 30 VSSA, 31 PTD2, 32 PTD3, 33 PTG3, 34 VREFH, 35 VREFL, 36 BKGD/MS, 41 PTG5/XTAL, 42 PTG6/EXTAL, 43 VSS, 44 PTC0, 45 PTC1, 46 PTC2, 47 PTC3, 48 PTC5

## MC9S08AC128xFUE
designator *  value MC9S08AC128xFUE  Reference: IC
ki_keywords: NXP S08 Microcontroller; ki_description: 8-bit Flexis Microcontroller, S08 core, 128kB Flash, 8kB RAM, LQFP-64; ki_fp_filters: LQFP*14x14mm*P0.8mm*; Footprint: Package_QFP:LQFP-64_14x14mm_P0.8mm; Datasheet: https://www.nxp.com/docs/en/data-sheet/MC9S08AC128.pdf
pins: 1 PTC4, 2 IRQ/TPMCLK, 3 ~{{RESET}}, 4 PTF0, 5 PTF1, 6 PTF2, 7 PTF3, 8 PTF4, 9 PTC6, 10 PTF7, 11 PTF5, 12 PTF6, 13 PTE0, 14 PTE1, 15 PTE2, 16 PTE3, 17 PTE4, 18 PTE5, 19 PTE6, 20 PTE7, 21 VSS, 22 VDD, 23 PTG0, 24 PTG1, 25 PTG2, 26 PTA0, 27 PTA1, 28 PTA2, 29 PTA3, 30 PTA4, 31 PTA5, 32 PTA6, 33 PTA7, 34 PTB0, 35 PTB1, 36 PTB2, 37 PTB3, 38 PTB4, 39 PTB5, 40 PTB6, 41 PTB7, 42 PTD0, 43 PTD1, 44 VDDA, 45 VSSA, 46 PTD2, 47 PTD3, 48 PTG3, 49 PTG4, 50 PTD4, 51 PTD5, 52 PTD6, 53 PTD7, 54 VREFH, 55 VREFL, 56 BKGD/MS, 57 PTG5/XTAL, 58 PTG6/EXTAL, 59 VSS, 60 PTC0, 61 PTC1, 62 PTC2, 63 PTC3, 64 PTC5

## MC9S08AC128xLKE
designator *  value MC9S08AC128xLKE  Reference: IC
ki_keywords: NXP S08 Microcontroller; ki_description: 8-bit Flexis Microcontroller, S08 core, 128kB Flash, 8kB RAM, LQFP-80; ki_fp_filters: LQFP*12x12mm*P0.5mm*; Footprint: Package_QFP:LQFP-80_12x12mm_P0.5mm; Datasheet: https://www.nxp.com/docs/en/data-sheet/MC9S08AC128.pdf
pins: 1 PTC4, 2 IRQ/TPMCLK, 3 ~{{RESET}}, 4 PTF0, 5 PTF1, 6 PTF2, 7 PTF3, 8 PTF4, 9 PTC6, 10 PTF7, 11 PTF5, 12 PTF6, 13 PTJ0, 14 PTJ1, 15 PTJ2, 16 PTJ3, 17 PTE0, 18 PTE1, 19 PTE2, 20 PTE3, 21 PTE4, 22 PTE5, 23 PTE6, 24 PTE7, 25 VSS, 26 VDD, 27 PTJ4, 28 PTJ5, 29 PTJ6, 30 PTJ7, 31 PTG0, 32 PTG1, 33 PTG2, 34 PTA0, 35 PTA1, 36 PTA2, 37 PTA3, 38 PTA4, 39 PTA5, 40 PTA6, 41 PTA7, 42 PTH0, 43 PTH1, 44 PTH2, 45 PTH3, 46 PTB0, 47 PTB1, 48 PTB2, 49 PTB3, 50 PTB4, 51 PTB5, 52 PTB6, 53 PTB7, 54 PTD0, 55 PTD1, 56 VDDA, 57 VSSA, 58 PTD2, 59 PTD3, 60 PTG3, 61 PTG4, 62 PTD4, 63 PTD5, 64 PTD6, 65 PTD7, 66 VREFH, 67 VREFL, 68 BKGD/MS, 69 PTG5/XTAL, 70 PTG6/EXTAL, 71 VSS, 72 VDD, 73 PTC0, 74 PTC1, 75 PTH4, 76 PTH5, 77 PTH6, 78 PTC2, 79 PTC3, 80 PTC5

## MC9S08AC128xPUE
designator *  value MC9S08AC128xPUE  Reference: IC
ki_keywords: NXP S08 Microcontroller; ki_description: 8-bit Flexis Microcontroller, S08 core, 128kB Flash, 8kB RAM, LQFP-64; ki_fp_filters: LQFP*10x10mm*P0.5mm*; Footprint: Package_QFP:LQFP-64_10x10mm_P0.5mm; Datasheet: https://www.nxp.com/docs/en/data-sheet/MC9S08AC128.pdf
pins: 1 PTC4, 2 IRQ/TPMCLK, 3 ~{{RESET}}, 4 PTF0, 5 PTF1, 6 PTF2, 7 PTF3, 8 PTF4, 9 PTC6, 10 PTF7, 11 PTF5, 12 PTF6, 13 PTE0, 14 PTE1, 15 PTE2, 16 PTE3, 17 PTE4, 18 PTE5, 19 PTE6, 20 PTE7, 21 VSS, 22 VDD, 23 PTG0, 24 PTG1, 25 PTG2, 26 PTA0, 27 PTA1, 28 PTA2, 29 PTA3, 30 PTA4, 31 PTA5, 32 PTA6, 33 PTA7, 34 PTB0, 35 PTB1, 36 PTB2, 37 PTB3, 38 PTB4, 39 PTB5, 40 PTB6, 41 PTB7, 42 PTD0, 43 PTD1, 44 VDDA, 45 VSSA, 46 PTD2, 47 PTD3, 48 PTG3, 49 PTG4, 50 PTD4, 51 PTD5, 52 PTD6, 53 PTD7, 54 VREFH, 55 VREFL, 56 BKGD/MS, 57 PTG5/XTAL, 58 PTG6/EXTAL, 59 VSS, 60 PTC0, 61 PTC1, 62 PTC2, 63 PTC3, 64 PTC5

## MC9S08AW8AE0xLC
designator *  value MC9S08AW8AE0xLC  Reference: IC
ki_keywords: NXP S08 Microcontroller; ki_description: 8-bit General Purpose Microcontroller, S08 core, 8kB Flash, 768B RAM, LQFP-32; ki_fp_filters: LQFP*7x7mm*P0.8mm*; Footprint: Package_QFP:LQFP-32_7x7mm_P0.8mm; Datasheet: https://www.nxp.com/docs/en/data-sheet/MC9S08AC60.pdf
pins: 1 IRQ/TPMCLK, 2 ~{{RESET}}, 3 PTF4, 4 PTF5, 5 PTE0, 6 PTE1, 7 PTE2, 8 PTE3, 9 PTE4, 10 PTE5, 11 PTE6, 12 PTE7, 13 VSS, 14 VDD, 15 PTG0, 16 PTG1, 17 PTB0, 18 PTB1, 19 PTB2, 20 PTB3, 21 VDDA, 22 VSSA, 23 PTD2, 24 PTD3, 25 VREFH, 26 VREFL, 27 BKGD/MS, 28 PTG5/XTAL, 29 PTG6/EXTAL, 30 VSS, 31 PTC0, 32 PTC1

## MC9S08AW16AE0xLC
designator *  value MC9S08AW16AE0xLC  Reference: IC
ki_keywords: NXP S08 Microcontroller; ki_description: 8-bit General Purpose Microcontroller, S08 core, 96kB Flash, 6kB RAM, LQFP-32; ki_fp_filters: LQFP*7x7mm*P0.8mm*; Footprint: Package_QFP:LQFP-32_7x7mm_P0.8mm; Datasheet: https://www.nxp.com/docs/en/data-sheet/MC9S08AC60.pdf
pins: 1 IRQ/TPMCLK, 2 ~{{RESET}}, 3 PTF4, 4 PTF5, 5 PTE0, 6 PTE1, 7 PTE2, 8 PTE3, 9 PTE4, 10 PTE5, 11 PTE6, 12 PTE7, 13 VSS, 14 VDD, 15 PTG0, 16 PTG1, 17 PTB0, 18 PTB1, 19 PTB2, 20 PTB3, 21 VDDA, 22 VSSA, 23 PTD2, 24 PTD3, 25 VREFH, 26 VREFL, 27 BKGD/MS, 28 PTG5/XTAL, 29 PTG6/EXTAL, 30 VSS, 31 PTC0, 32 PTC1

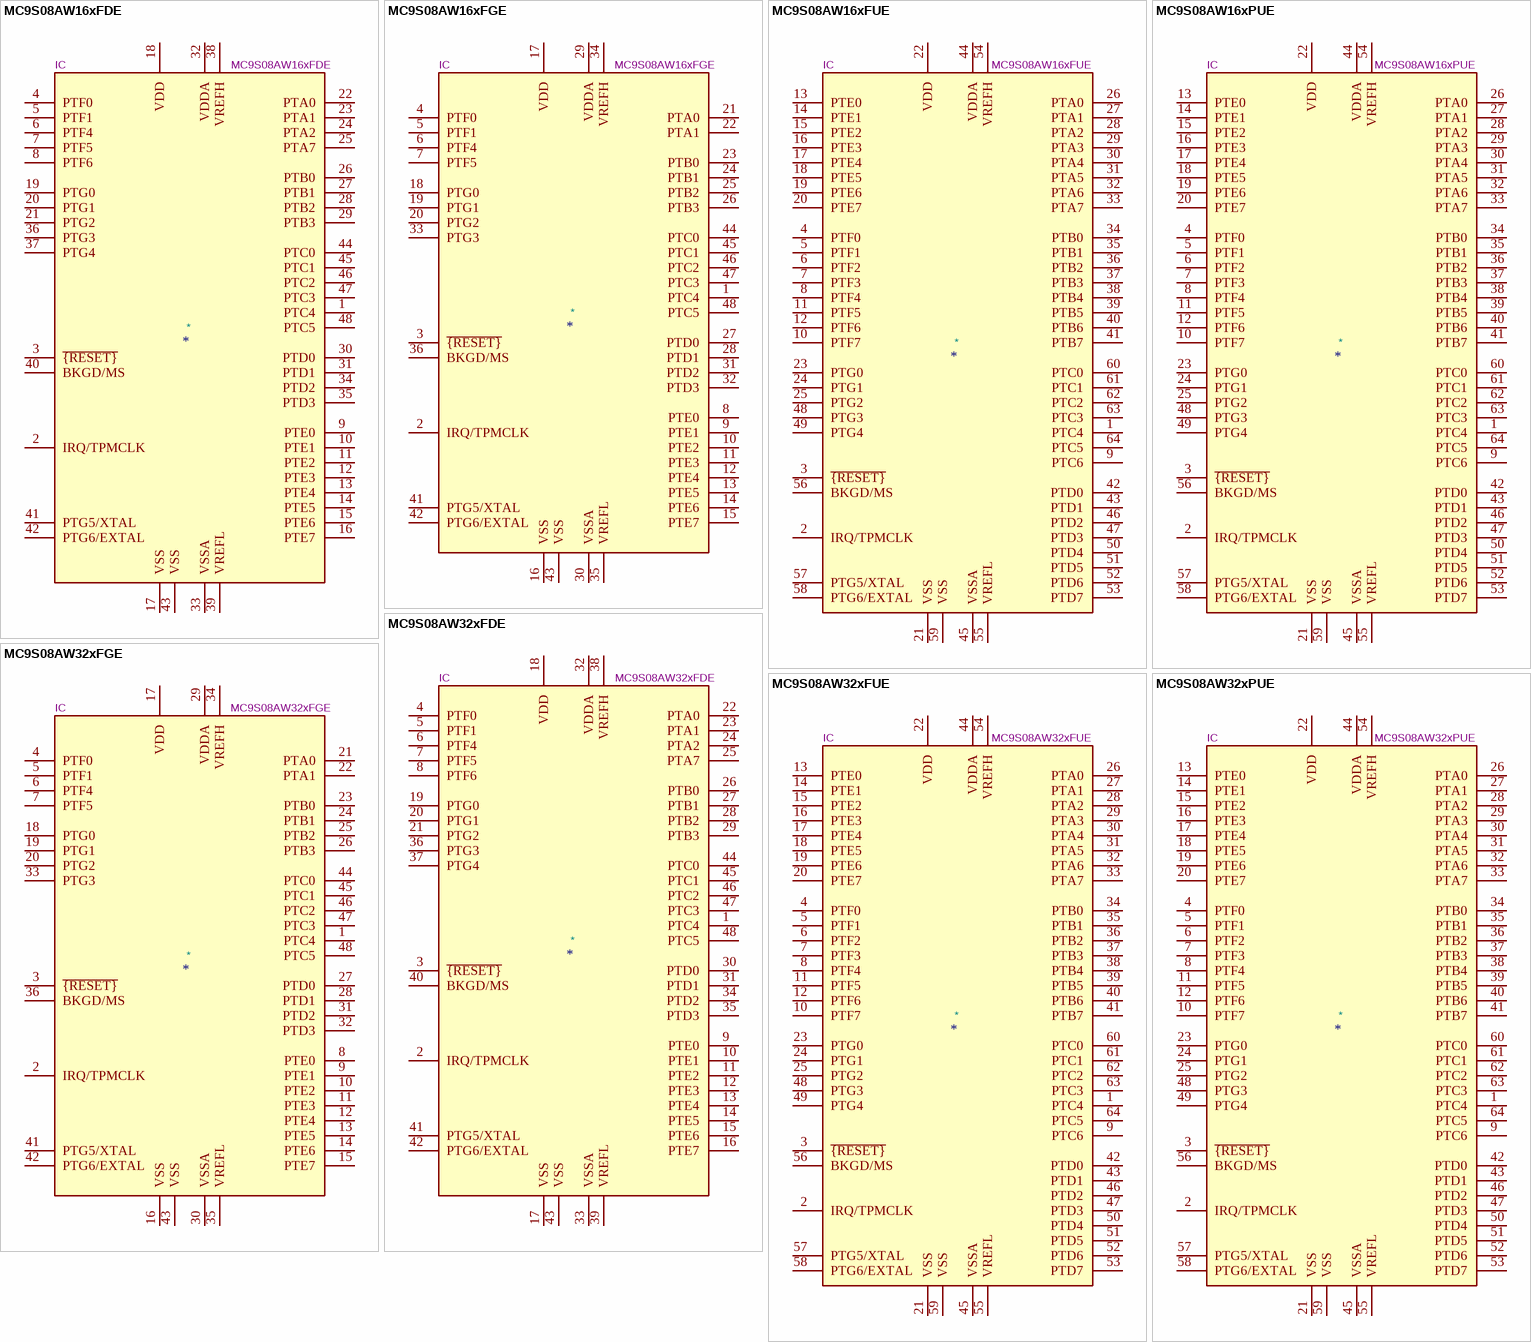
[diagram p4: symbols MC9S08AW16xFDE to MC9S08AW32xPUE]

## MC9S08AW16xFDE
designator *  value MC9S08AW16xFDE  Reference: IC
ki_keywords: NXP S08 Microcontroller; ki_description: 8-bit General Purpose Microcontroller, S08 core, 16kB Flash, 1kB RAM, QFN-48; ki_fp_filters: QFN*7x7mm*P0.5mm*; Footprint: Package_DFN_QFN:QFN-48-1EP_7x7mm_P0.5mm_EP5.15x5.15mm; Datasheet: https://www.nxp.com/docs/en/data-sheet/MC9S08AW60.pdf
pins: 1 PTC4, 2 IRQ/TPMCLK, 3 ~{{RESET}}, 4 PTF0, 5 PTF1, 6 PTF4, 7 PTF5, 8 PTF6, 9 PTE0, 10 PTE1, 11 PTE2, 12 PTE3, 13 PTE4, 14 PTE5, 15 PTE6, 16 PTE7, 17 VSS, 18 VDD, 19 PTG0, 20 PTG1, 21 PTG2, 22 PTA0, 23 PTA1, 24 PTA2, 25 PTA7, 26 PTB0, 27 PTB1, 28 PTB2, 29 PTB3, 30 PTD0, 31 PTD1, 32 VDDA, 33 VSSA, 34 PTD2, 35 PTD3, 36 PTG3, 37 PTG4, 38 VREFH, 39 VREFL, 40 BKGD/MS, 41 PTG5/XTAL, 42 PTG6/EXTAL, 43 VSS, 44 PTC0, 45 PTC1, 46 PTC2, 47 PTC3, 48 PTC5

## MC9S08AW16xFGE
designator *  value MC9S08AW16xFGE  Reference: IC
ki_keywords: NXP S08 Microcontroller; ki_description: 8-bit General Purpose Microcontroller, S08 core, 16kB Flash, 1kB RAM, LQFP-44; ki_fp_filters: LQFP*10x10mm*P0.8mm*; Footprint: Package_QFP:LQFP-44_10x10mm_P0.8mm; Datasheet: https://www.nxp.com/docs/en/data-sheet/MC9S08AW60.pdf
pins: 1 PTC4, 2 IRQ/TPMCLK, 3 ~{{RESET}}, 4 PTF0, 5 PTF1, 6 PTF4, 7 PTF5, 8 PTE0, 9 PTE1, 10 PTE2, 11 PTE3, 12 PTE4, 13 PTE5, 14 PTE6, 15 PTE7, 16 VSS, 17 VDD, 18 PTG0, 19 PTG1, 20 PTG2, 21 PTA0, 22 PTA1, 23 PTB0, 24 PTB1, 25 PTB2, 26 PTB3, 27 PTD0, 28 PTD1, 29 VDDA, 30 VSSA, 31 PTD2, 32 PTD3, 33 PTG3, 34 VREFH, 35 VREFL, 36 BKGD/MS, 41 PTG5/XTAL, 42 PTG6/EXTAL, 43 VSS, 44 PTC0, 45 PTC1, 46 PTC2, 47 PTC3, 48 PTC5

## MC9S08AW16xFUE
designator *  value MC9S08AW16xFUE  Reference: IC
ki_keywords: NXP S08 Microcontroller; ki_description: 8-bit General Purpose Microcontroller, S08 core, 16kB Flash, 1kB RAM, LQFP-64; ki_fp_filters: LQFP*14x14mm*P0.8mm*; Footprint: Package_QFP:LQFP-64_14x14mm_P0.8mm; Datasheet: https://www.nxp.com/docs/en/data-sheet/MC9S08AW60.pdf
pins: 1 PTC4, 2 IRQ/TPMCLK, 3 ~{{RESET}}, 4 PTF0, 5 PTF1, 6 PTF2, 7 PTF3, 8 PTF4, 9 PTC6, 10 PTF7, 11 PTF5, 12 PTF6, 13 PTE0, 14 PTE1, 15 PTE2, 16 PTE3, 17 PTE4, 18 PTE5, 19 PTE6, 20 PTE7, 21 VSS, 22 VDD, 23 PTG0, 24 PTG1, 25 PTG2, 26 PTA0, 27 PTA1, 28 PTA2, 29 PTA3, 30 PTA4, 31 PTA5, 32 PTA6, 33 PTA7, 34 PTB0, 35 PTB1, 36 PTB2, 37 PTB3, 38 PTB4, 39 PTB5, 40 PTB6, 41 PTB7, 42 PTD0, 43 PTD1, 44 VDDA, 45 VSSA, 46 PTD2, 47 PTD3, 48 PTG3, 49 PTG4, 50 PTD4, 51 PTD5, 52 PTD6, 53 PTD7, 54 VREFH, 55 VREFL, 56 BKGD/MS, 57 PTG5/XTAL, 58 PTG6/EXTAL, 59 VSS, 60 PTC0, 61 PTC1, 62 PTC2, 63 PTC3, 64 PTC5

## MC9S08AW16xPUE
designator *  value MC9S08AW16xPUE  Reference: IC
ki_keywords: NXP S08 Microcontroller; ki_description: 8-bit General Purpose Microcontroller, S08 core, 16kB Flash, 1kB RAM, LQFP-64; ki_fp_filters: LQFP*10x10mm*P0.5mm*; Footprint: Package_QFP:LQFP-64_10x10mm_P0.5mm; Datasheet: https://www.nxp.com/docs/en/data-sheet/MC9S08AW60.pdf
pins: 1 PTC4, 2 IRQ/TPMCLK, 3 ~{{RESET}}, 4 PTF0, 5 PTF1, 6 PTF2, 7 PTF3, 8 PTF4, 9 PTC6, 10 PTF7, 11 PTF5, 12 PTF6, 13 PTE0, 14 PTE1, 15 PTE2, 16 PTE3, 17 PTE4, 18 PTE5, 19 PTE6, 20 PTE7, 21 VSS, 22 VDD, 23 PTG0, 24 PTG1, 25 PTG2, 26 PTA0, 27 PTA1, 28 PTA2, 29 PTA3, 30 PTA4, 31 PTA5, 32 PTA6, 33 PTA7, 34 PTB0, 35 PTB1, 36 PTB2, 37 PTB3, 38 PTB4, 39 PTB5, 40 PTB6, 41 PTB7, 42 PTD0, 43 PTD1, 44 VDDA, 45 VSSA, 46 PTD2, 47 PTD3, 48 PTG3, 49 PTG4, 50 PTD4, 51 PTD5, 52 PTD6, 53 PTD7, 54 VREFH, 55 VREFL, 56 BKGD/MS, 57 PTG5/XTAL, 58 PTG6/EXTAL, 59 VSS, 60 PTC0, 61 PTC1, 62 PTC2, 63 PTC3, 64 PTC5

## MC9S08AW32xFDE
designator *  value MC9S08AW32xFDE  Reference: IC
ki_keywords: NXP S08 Microcontroller; ki_description: 8-bit General Purpose Microcontroller, S08 core, 32kB Flash, 2kB RAM, QFN-48; ki_fp_filters: QFN*7x7mm*P0.5mm*; Footprint: Package_DFN_QFN:QFN-48-1EP_7x7mm_P0.5mm_EP5.15x5.15mm; Datasheet: https://www.nxp.com/docs/en/data-sheet/MC9S08AW60.pdf
pins: 1 PTC4, 2 IRQ/TPMCLK, 3 ~{{RESET}}, 4 PTF0, 5 PTF1, 6 PTF4, 7 PTF5, 8 PTF6, 9 PTE0, 10 PTE1, 11 PTE2, 12 PTE3, 13 PTE4, 14 PTE5, 15 PTE6, 16 PTE7, 17 VSS, 18 VDD, 19 PTG0, 20 PTG1, 21 PTG2, 22 PTA0, 23 PTA1, 24 PTA2, 25 PTA7, 26 PTB0, 27 PTB1, 28 PTB2, 29 PTB3, 30 PTD0, 31 PTD1, 32 VDDA, 33 VSSA, 34 PTD2, 35 PTD3, 36 PTG3, 37 PTG4, 38 VREFH, 39 VREFL, 40 BKGD/MS, 41 PTG5/XTAL, 42 PTG6/EXTAL, 43 VSS, 44 PTC0, 45 PTC1, 46 PTC2, 47 PTC3, 48 PTC5

## MC9S08AW32xFGE
designator *  value MC9S08AW32xFGE  Reference: IC
ki_keywords: NXP S08 Microcontroller; ki_description: 8-bit General Purpose Microcontroller, S08 core, 32kB Flash, 2kB RAM, LQFP-44; ki_fp_filters: LQFP*10x10mm*P0.8mm*; Footprint: Package_QFP:LQFP-44_10x10mm_P0.8mm; Datasheet: https://www.nxp.com/docs/en/data-sheet/MC9S08AW60.pdf
pins: 1 PTC4, 2 IRQ/TPMCLK, 3 ~{{RESET}}, 4 PTF0, 5 PTF1, 6 PTF4, 7 PTF5, 8 PTE0, 9 PTE1, 10 PTE2, 11 PTE3, 12 PTE4, 13 PTE5, 14 PTE6, 15 PTE7, 16 VSS, 17 VDD, 18 PTG0, 19 PTG1, 20 PTG2, 21 PTA0, 22 PTA1, 23 PTB0, 24 PTB1, 25 PTB2, 26 PTB3, 27 PTD0, 28 PTD1, 29 VDDA, 30 VSSA, 31 PTD2, 32 PTD3, 33 PTG3, 34 VREFH, 35 VREFL, 36 BKGD/MS, 41 PTG5/XTAL, 42 PTG6/EXTAL, 43 VSS, 44 PTC0, 45 PTC1, 46 PTC2, 47 PTC3, 48 PTC5

## MC9S08AW32xFUE
designator *  value MC9S08AW32xFUE  Reference: IC
ki_keywords: NXP S08 Microcontroller; ki_description: 8-bit General Purpose Microcontroller, S08 core, 32kB Flash, 2kB RAM, LQFP-64; ki_fp_filters: LQFP*14x14mm*P0.8mm*; Footprint: Package_QFP:LQFP-64_14x14mm_P0.8mm; Datasheet: https://www.nxp.com/docs/en/data-sheet/MC9S08AW60.pdf
pins: 1 PTC4, 2 IRQ/TPMCLK, 3 ~{{RESET}}, 4 PTF0, 5 PTF1, 6 PTF2, 7 PTF3, 8 PTF4, 9 PTC6, 10 PTF7, 11 PTF5, 12 PTF6, 13 PTE0, 14 PTE1, 15 PTE2, 16 PTE3, 17 PTE4, 18 PTE5, 19 PTE6, 20 PTE7, 21 VSS, 22 VDD, 23 PTG0, 24 PTG1, 25 PTG2, 26 PTA0, 27 PTA1, 28 PTA2, 29 PTA3, 30 PTA4, 31 PTA5, 32 PTA6, 33 PTA7, 34 PTB0, 35 PTB1, 36 PTB2, 37 PTB3, 38 PTB4, 39 PTB5, 40 PTB6, 41 PTB7, 42 PTD0, 43 PTD1, 44 VDDA, 45 VSSA, 46 PTD2, 47 PTD3, 48 PTG3, 49 PTG4, 50 PTD4, 51 PTD5, 52 PTD6, 53 PTD7, 54 VREFH, 55 VREFL, 56 BKGD/MS, 57 PTG5/XTAL, 58 PTG6/EXTAL, 59 VSS, 60 PTC0, 61 PTC1, 62 PTC2, 63 PTC3, 64 PTC5

## MC9S08AW32xPUE
designator *  value MC9S08AW32xPUE  Reference: IC
ki_keywords: NXP S08 Microcontroller; ki_description: 8-bit General Purpose Microcontroller, S08 core, 32kB Flash, 2kB RAM, LQFP-64; ki_fp_filters: LQFP*10x10mm*P0.5mm*; Footprint: Package_QFP:LQFP-64_10x10mm_P0.5mm; Datasheet: https://www.nxp.com/docs/en/data-sheet/MC9S08AW60.pdf
pins: 1 PTC4, 2 IRQ/TPMCLK, 3 ~{{RESET}}, 4 PTF0, 5 PTF1, 6 PTF2, 7 PTF3, 8 PTF4, 9 PTC6, 10 PTF7, 11 PTF5, 12 PTF6, 13 PTE0, 14 PTE1, 15 PTE2, 16 PTE3, 17 PTE4, 18 PTE5, 19 PTE6, 20 PTE7, 21 VSS, 22 VDD, 23 PTG0, 24 PTG1, 25 PTG2, 26 PTA0, 27 PTA1, 28 PTA2, 29 PTA3, 30 PTA4, 31 PTA5, 32 PTA6, 33 PTA7, 34 PTB0, 35 PTB1, 36 PTB2, 37 PTB3, 38 PTB4, 39 PTB5, 40 PTB6, 41 PTB7, 42 PTD0, 43 PTD1, 44 VDDA, 45 VSSA, 46 PTD2, 47 PTD3, 48 PTG3, 49 PTG4, 50 PTD4, 51 PTD5, 52 PTD6, 53 PTD7, 54 VREFH, 55 VREFL, 56 BKGD/MS, 57 PTG5/XTAL, 58 PTG6/EXTAL, 59 VSS, 60 PTC0, 61 PTC1, 62 PTC2, 63 PTC3, 64 PTC5

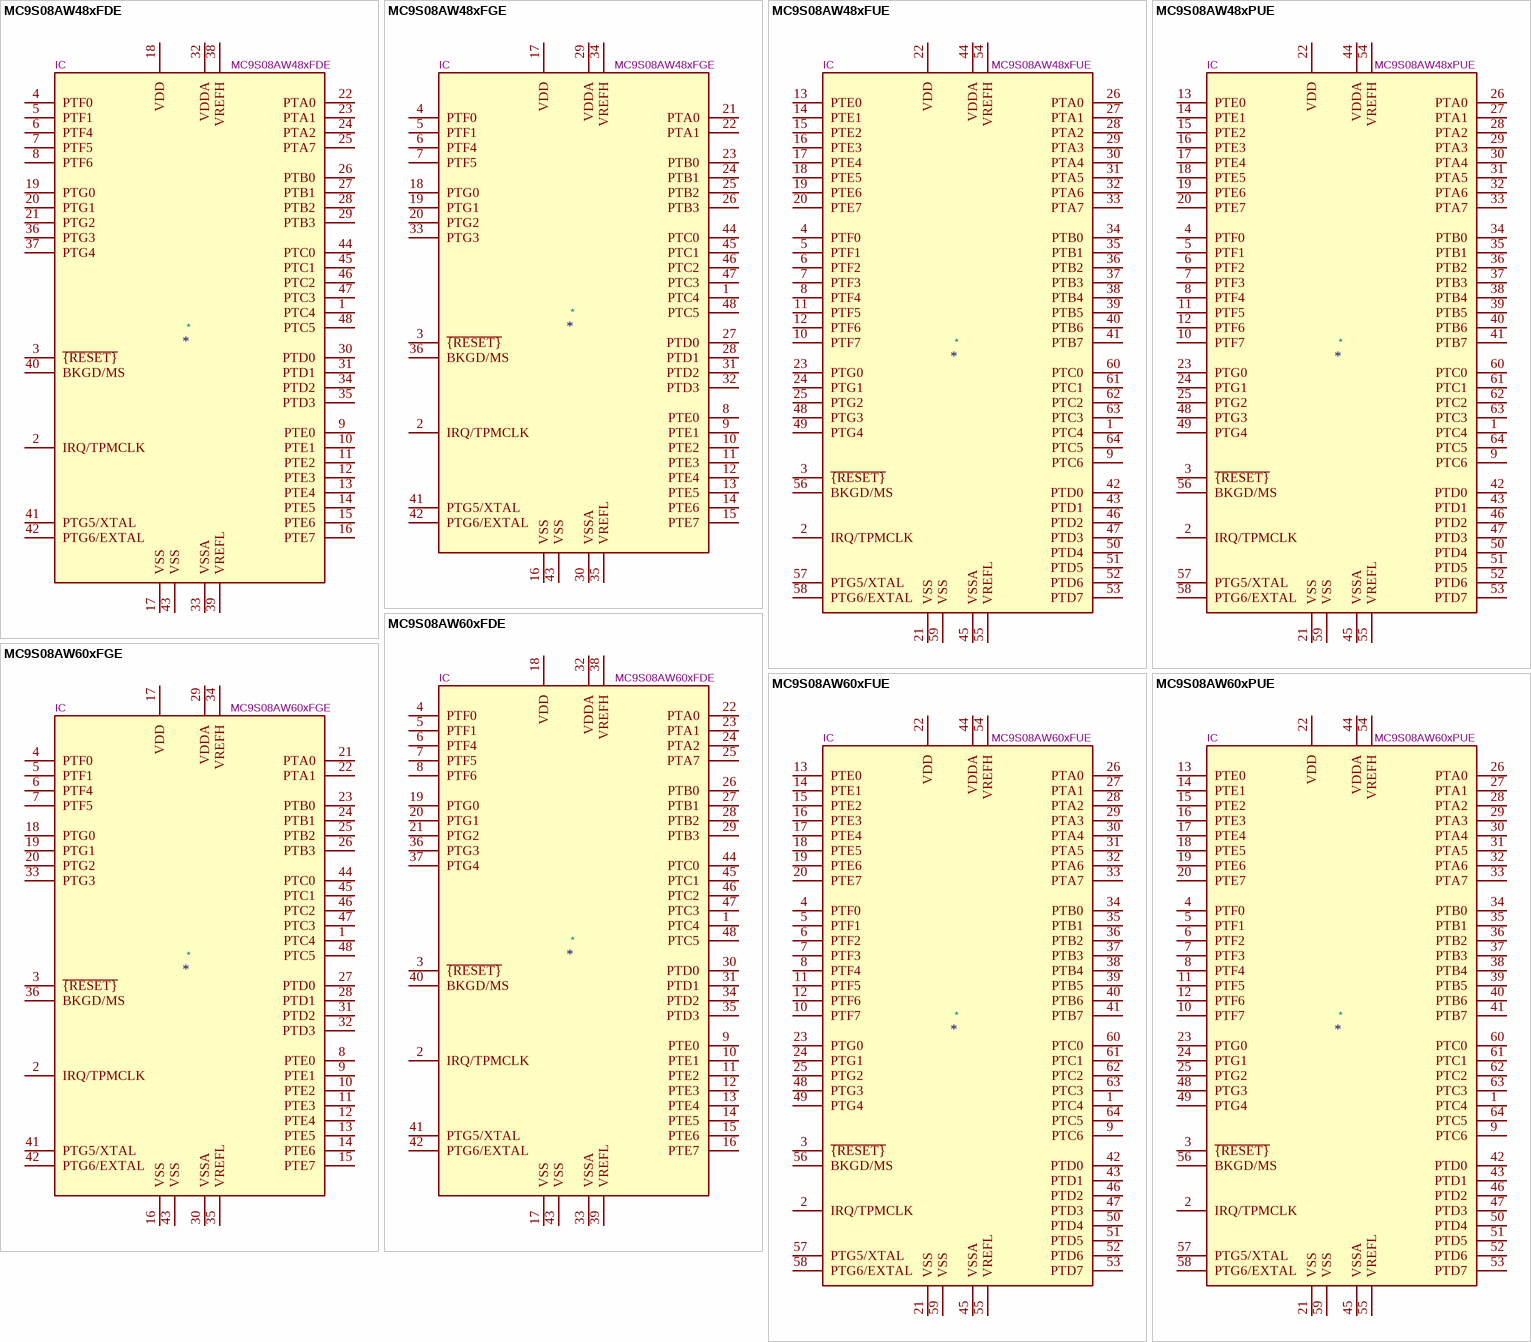
[diagram p5: symbols MC9S08AW48xFDE to MC9S08AW60xPUE]

## MC9S08AW48xFDE
designator *  value MC9S08AW48xFDE  Reference: IC
ki_keywords: NXP S08 Microcontroller; ki_description: 8-bit General Purpose Microcontroller, S08 core, 48kB Flash, 2kB RAM, QFN-48; ki_fp_filters: QFN*7x7mm*P0.5mm*; Footprint: Package_DFN_QFN:QFN-48-1EP_7x7mm_P0.5mm_EP5.15x5.15mm; Datasheet: https://www.nxp.com/docs/en/data-sheet/MC9S08AW60.pdf
pins: 1 PTC4, 2 IRQ/TPMCLK, 3 ~{{RESET}}, 4 PTF0, 5 PTF1, 6 PTF4, 7 PTF5, 8 PTF6, 9 PTE0, 10 PTE1, 11 PTE2, 12 PTE3, 13 PTE4, 14 PTE5, 15 PTE6, 16 PTE7, 17 VSS, 18 VDD, 19 PTG0, 20 PTG1, 21 PTG2, 22 PTA0, 23 PTA1, 24 PTA2, 25 PTA7, 26 PTB0, 27 PTB1, 28 PTB2, 29 PTB3, 30 PTD0, 31 PTD1, 32 VDDA, 33 VSSA, 34 PTD2, 35 PTD3, 36 PTG3, 37 PTG4, 38 VREFH, 39 VREFL, 40 BKGD/MS, 41 PTG5/XTAL, 42 PTG6/EXTAL, 43 VSS, 44 PTC0, 45 PTC1, 46 PTC2, 47 PTC3, 48 PTC5

## MC9S08AW48xFGE
designator *  value MC9S08AW48xFGE  Reference: IC
ki_keywords: NXP S08 Microcontroller; ki_description: 8-bit General Purpose Microcontroller, S08 core, 48kB Flash, 2kB RAM, LQFP-44; ki_fp_filters: LQFP*10x10mm*P0.8mm*; Footprint: Package_QFP:LQFP-44_10x10mm_P0.8mm; Datasheet: https://www.nxp.com/docs/en/data-sheet/MC9S08AW60.pdf
pins: 1 PTC4, 2 IRQ/TPMCLK, 3 ~{{RESET}}, 4 PTF0, 5 PTF1, 6 PTF4, 7 PTF5, 8 PTE0, 9 PTE1, 10 PTE2, 11 PTE3, 12 PTE4, 13 PTE5, 14 PTE6, 15 PTE7, 16 VSS, 17 VDD, 18 PTG0, 19 PTG1, 20 PTG2, 21 PTA0, 22 PTA1, 23 PTB0, 24 PTB1, 25 PTB2, 26 PTB3, 27 PTD0, 28 PTD1, 29 VDDA, 30 VSSA, 31 PTD2, 32 PTD3, 33 PTG3, 34 VREFH, 35 VREFL, 36 BKGD/MS, 41 PTG5/XTAL, 42 PTG6/EXTAL, 43 VSS, 44 PTC0, 45 PTC1, 46 PTC2, 47 PTC3, 48 PTC5

## MC9S08AW48xFUE
designator *  value MC9S08AW48xFUE  Reference: IC
ki_keywords: NXP S08 Microcontroller; ki_description: 8-bit General Purpose Microcontroller, S08 core, 48kB Flash, 2kB RAM, LQFP-64; ki_fp_filters: LQFP*14x14mm*P0.8mm*; Footprint: Package_QFP:LQFP-64_14x14mm_P0.8mm; Datasheet: https://www.nxp.com/docs/en/data-sheet/MC9S08AW60.pdf
pins: 1 PTC4, 2 IRQ/TPMCLK, 3 ~{{RESET}}, 4 PTF0, 5 PTF1, 6 PTF2, 7 PTF3, 8 PTF4, 9 PTC6, 10 PTF7, 11 PTF5, 12 PTF6, 13 PTE0, 14 PTE1, 15 PTE2, 16 PTE3, 17 PTE4, 18 PTE5, 19 PTE6, 20 PTE7, 21 VSS, 22 VDD, 23 PTG0, 24 PTG1, 25 PTG2, 26 PTA0, 27 PTA1, 28 PTA2, 29 PTA3, 30 PTA4, 31 PTA5, 32 PTA6, 33 PTA7, 34 PTB0, 35 PTB1, 36 PTB2, 37 PTB3, 38 PTB4, 39 PTB5, 40 PTB6, 41 PTB7, 42 PTD0, 43 PTD1, 44 VDDA, 45 VSSA, 46 PTD2, 47 PTD3, 48 PTG3, 49 PTG4, 50 PTD4, 51 PTD5, 52 PTD6, 53 PTD7, 54 VREFH, 55 VREFL, 56 BKGD/MS, 57 PTG5/XTAL, 58 PTG6/EXTAL, 59 VSS, 60 PTC0, 61 PTC1, 62 PTC2, 63 PTC3, 64 PTC5

## MC9S08AW48xPUE
designator *  value MC9S08AW48xPUE  Reference: IC
ki_keywords: NXP S08 Microcontroller; ki_description: 8-bit General Purpose Microcontroller, S08 core, 48kB Flash, 2kB RAM, LQFP-64; ki_fp_filters: LQFP*10x10mm*P0.5mm*; Footprint: Package_QFP:LQFP-64_10x10mm_P0.5mm; Datasheet: https://www.nxp.com/docs/en/data-sheet/MC9S08AW60.pdf
pins: 1 PTC4, 2 IRQ/TPMCLK, 3 ~{{RESET}}, 4 PTF0, 5 PTF1, 6 PTF2, 7 PTF3, 8 PTF4, 9 PTC6, 10 PTF7, 11 PTF5, 12 PTF6, 13 PTE0, 14 PTE1, 15 PTE2, 16 PTE3, 17 PTE4, 18 PTE5, 19 PTE6, 20 PTE7, 21 VSS, 22 VDD, 23 PTG0, 24 PTG1, 25 PTG2, 26 PTA0, 27 PTA1, 28 PTA2, 29 PTA3, 30 PTA4, 31 PTA5, 32 PTA6, 33 PTA7, 34 PTB0, 35 PTB1, 36 PTB2, 37 PTB3, 38 PTB4, 39 PTB5, 40 PTB6, 41 PTB7, 42 PTD0, 43 PTD1, 44 VDDA, 45 VSSA, 46 PTD2, 47 PTD3, 48 PTG3, 49 PTG4, 50 PTD4, 51 PTD5, 52 PTD6, 53 PTD7, 54 VREFH, 55 VREFL, 56 BKGD/MS, 57 PTG5/XTAL, 58 PTG6/EXTAL, 59 VSS, 60 PTC0, 61 PTC1, 62 PTC2, 63 PTC3, 64 PTC5

## MC9S08AW60xFDE
designator *  value MC9S08AW60xFDE  Reference: IC
ki_keywords: NXP S08 Microcontroller; ki_description: 8-bit General Purpose Microcontroller, S08 core, 60kB Flash, 2kB RAM, QFN-48; ki_fp_filters: QFN*7x7mm*P0.5mm*; Footprint: Package_DFN_QFN:QFN-48-1EP_7x7mm_P0.5mm_EP5.15x5.15mm; Datasheet: https://www.nxp.com/docs/en/data-sheet/MC9S08AW60.pdf
pins: 1 PTC4, 2 IRQ/TPMCLK, 3 ~{{RESET}}, 4 PTF0, 5 PTF1, 6 PTF4, 7 PTF5, 8 PTF6, 9 PTE0, 10 PTE1, 11 PTE2, 12 PTE3, 13 PTE4, 14 PTE5, 15 PTE6, 16 PTE7, 17 VSS, 18 VDD, 19 PTG0, 20 PTG1, 21 PTG2, 22 PTA0, 23 PTA1, 24 PTA2, 25 PTA7, 26 PTB0, 27 PTB1, 28 PTB2, 29 PTB3, 30 PTD0, 31 PTD1, 32 VDDA, 33 VSSA, 34 PTD2, 35 PTD3, 36 PTG3, 37 PTG4, 38 VREFH, 39 VREFL, 40 BKGD/MS, 41 PTG5/XTAL, 42 PTG6/EXTAL, 43 VSS, 44 PTC0, 45 PTC1, 46 PTC2, 47 PTC3, 48 PTC5

## MC9S08AW60xFGE
designator *  value MC9S08AW60xFGE  Reference: IC
ki_keywords: NXP S08 Microcontroller; ki_description: 8-bit General Purpose Microcontroller, S08 core, 60kB Flash, 2kB RAM, LQFP-44; ki_fp_filters: LQFP*10x10mm*P0.8mm*; Footprint: Package_QFP:LQFP-44_10x10mm_P0.8mm; Datasheet: https://www.nxp.com/docs/en/data-sheet/MC9S08AW60.pdf
pins: 1 PTC4, 2 IRQ/TPMCLK, 3 ~{{RESET}}, 4 PTF0, 5 PTF1, 6 PTF4, 7 PTF5, 8 PTE0, 9 PTE1, 10 PTE2, 11 PTE3, 12 PTE4, 13 PTE5, 14 PTE6, 15 PTE7, 16 VSS, 17 VDD, 18 PTG0, 19 PTG1, 20 PTG2, 21 PTA0, 22 PTA1, 23 PTB0, 24 PTB1, 25 PTB2, 26 PTB3, 27 PTD0, 28 PTD1, 29 VDDA, 30 VSSA, 31 PTD2, 32 PTD3, 33 PTG3, 34 VREFH, 35 VREFL, 36 BKGD/MS, 41 PTG5/XTAL, 42 PTG6/EXTAL, 43 VSS, 44 PTC0, 45 PTC1, 46 PTC2, 47 PTC3, 48 PTC5

## MC9S08AW60xFUE
designator *  value MC9S08AW60xFUE  Reference: IC
ki_keywords: NXP S08 Microcontroller; ki_description: 8-bit General Purpose Microcontroller, S08 core, 60kB Flash, 2kB RAM, LQFP-64; ki_fp_filters: LQFP*14x14mm*P0.8mm*; Footprint: Package_QFP:LQFP-64_14x14mm_P0.8mm; Datasheet: https://www.nxp.com/docs/en/data-sheet/MC9S08AW60.pdf
pins: 1 PTC4, 2 IRQ/TPMCLK, 3 ~{{RESET}}, 4 PTF0, 5 PTF1, 6 PTF2, 7 PTF3, 8 PTF4, 9 PTC6, 10 PTF7, 11 PTF5, 12 PTF6, 13 PTE0, 14 PTE1, 15 PTE2, 16 PTE3, 17 PTE4, 18 PTE5, 19 PTE6, 20 PTE7, 21 VSS, 22 VDD, 23 PTG0, 24 PTG1, 25 PTG2, 26 PTA0, 27 PTA1, 28 PTA2, 29 PTA3, 30 PTA4, 31 PTA5, 32 PTA6, 33 PTA7, 34 PTB0, 35 PTB1, 36 PTB2, 37 PTB3, 38 PTB4, 39 PTB5, 40 PTB6, 41 PTB7, 42 PTD0, 43 PTD1, 44 VDDA, 45 VSSA, 46 PTD2, 47 PTD3, 48 PTG3, 49 PTG4, 50 PTD4, 51 PTD5, 52 PTD6, 53 PTD7, 54 VREFH, 55 VREFL, 56 BKGD/MS, 57 PTG5/XTAL, 58 PTG6/EXTAL, 59 VSS, 60 PTC0, 61 PTC1, 62 PTC2, 63 PTC3, 64 PTC5

## MC9S08AW60xPUE
designator *  value MC9S08AW60xPUE  Reference: IC
ki_keywords: NXP S08 Microcontroller; ki_description: 8-bit General Purpose Microcontroller, S08 core, 60kB Flash, 2kB RAM, LQFP-64; ki_fp_filters: LQFP*10x10mm*P0.5mm*; Footprint: Package_QFP:LQFP-64_10x10mm_P0.5mm; Datasheet: https://www.nxp.com/docs/en/data-sheet/MC9S08AW60.pdf
pins: 1 PTC4, 2 IRQ/TPMCLK, 3 ~{{RESET}}, 4 PTF0, 5 PTF1, 6 PTF2, 7 PTF3, 8 PTF4, 9 PTC6, 10 PTF7, 11 PTF5, 12 PTF6, 13 PTE0, 14 PTE1, 15 PTE2, 16 PTE3, 17 PTE4, 18 PTE5, 19 PTE6, 20 PTE7, 21 VSS, 22 VDD, 23 PTG0, 24 PTG1, 25 PTG2, 26 PTA0, 27 PTA1, 28 PTA2, 29 PTA3, 30 PTA4, 31 PTA5, 32 PTA6, 33 PTA7, 34 PTB0, 35 PTB1, 36 PTB2, 37 PTB3, 38 PTB4, 39 PTB5, 40 PTB6, 41 PTB7, 42 PTD0, 43 PTD1, 44 VDDA, 45 VSSA, 46 PTD2, 47 PTD3, 48 PTG3, 49 PTG4, 50 PTD4, 51 PTD5, 52 PTD6, 53 PTD7, 54 VREFH, 55 VREFL, 56 BKGD/MS, 57 PTG5/XTAL, 58 PTG6/EXTAL, 59 VSS, 60 PTC0, 61 PTC1, 62 PTC2, 63 PTC3, 64 PTC5

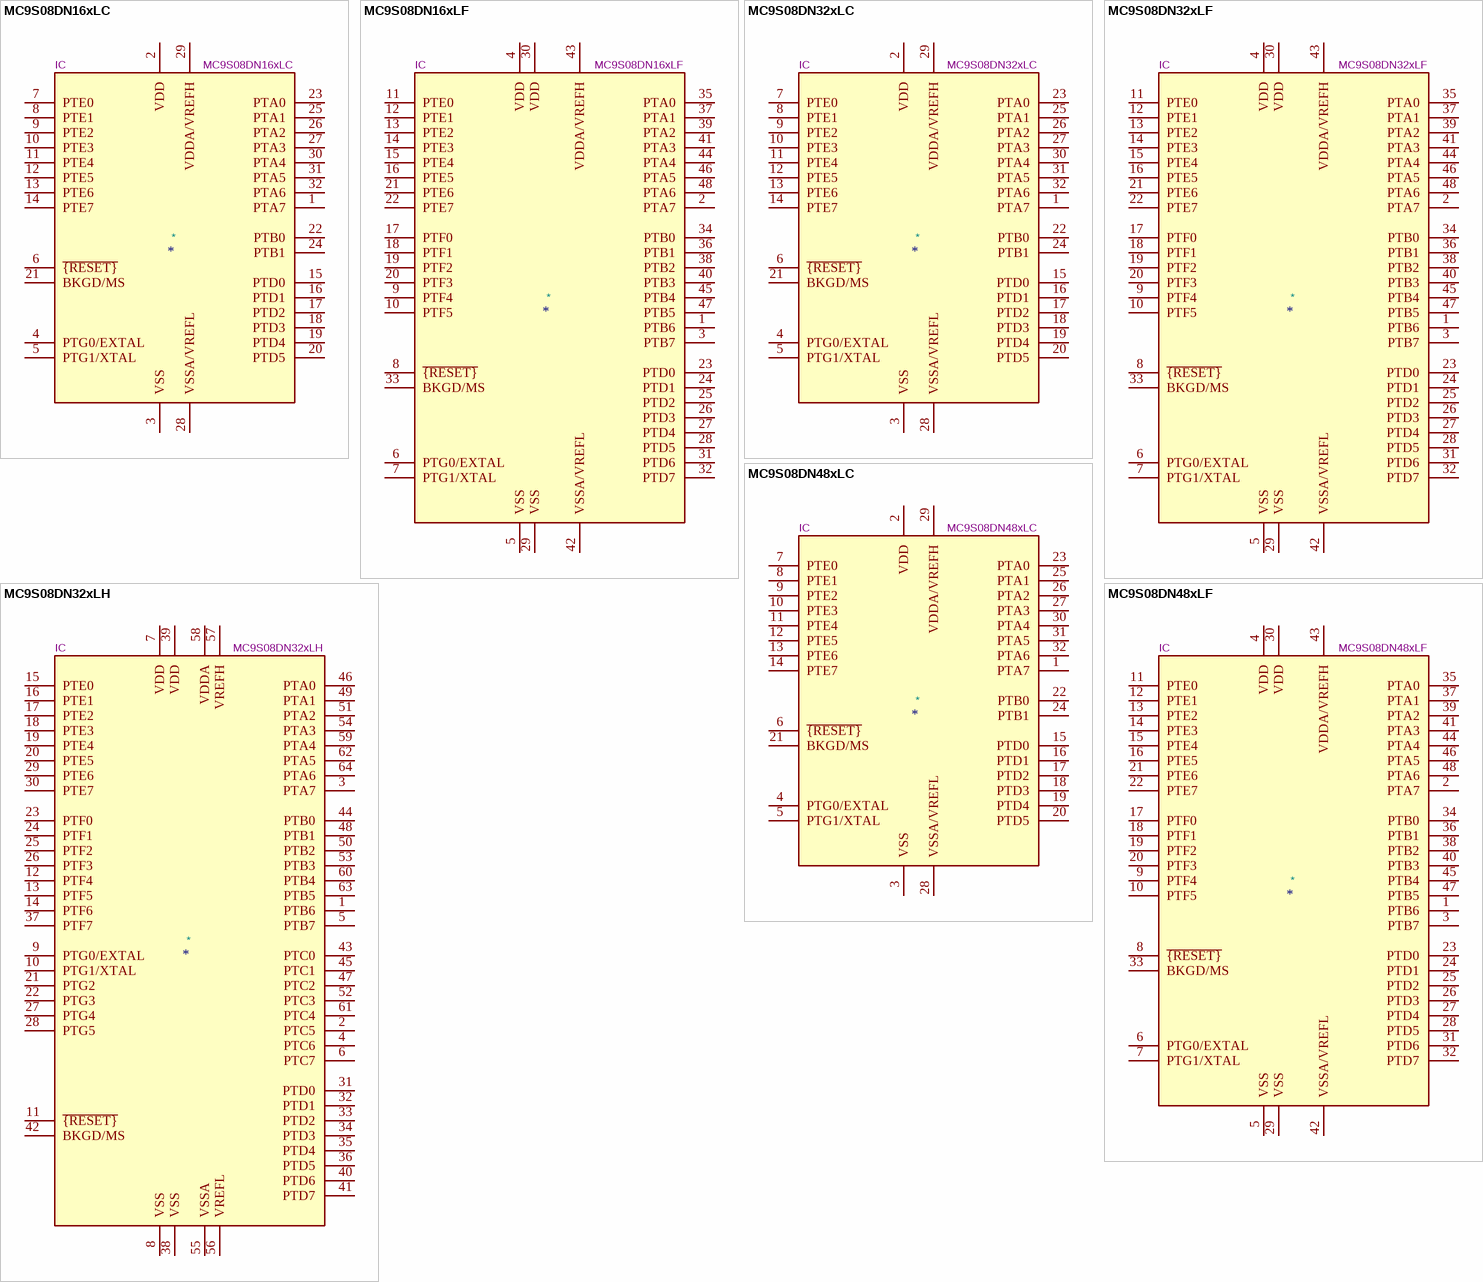
[diagram p6: symbols MC9S08DN16xLC to MC9S08DN48xLF]

## MC9S08DN16xLC
designator *  value MC9S08DN16xLC  Reference: IC
ki_keywords: NXP S08 Microcontroller; ki_description: 8-bit Cost-Effective Microcontroller, S08 core, 16kB Flash, 1kB RAM, 1kB EEPROM, LQFP-32; ki_fp_filters: LQFP*7x7mm*P0.8mm*; Footprint: Package_QFP:LQFP-32_7x7mm_P0.8mm; Datasheet: https://www.nxp.com/docs/en/data-sheet/MC9S08DZ60.pdf
pins: 1 PTA7, 2 VDD, 3 VSS, 4 PTG0/EXTAL, 5 PTG1/XTAL, 6 ~{{RESET}}, 7 PTE0, 8 PTE1, 9 PTE2, 10 PTE3, 11 PTE4, 12 PTE5, 13 PTE6, 14 PTE7, 15 PTD0, 16 PTD1, 17 PTD2, 18 PTD3, 19 PTD4, 20 PTD5, 21 BKGD/MS, 22 PTB0, 23 PTA0, 24 PTB1, 25 PTA1, 26 PTA2, 27 PTA3, 28 VSSA/VREFL, 29 VDDA/VREFH, 30 PTA4, 31 PTA5, 32 PTA6

## MC9S08DN16xLF
designator *  value MC9S08DN16xLF  Reference: IC
ki_keywords: NXP S08 Microcontroller; ki_description: 8-bit Cost-Effective Microcontroller, S08 core, 16kB Flash, 1kB RAM, 1kB EEPROM, LQFP-48; ki_fp_filters: LQFP*7x7mm*P0.5mm*; Footprint: Package_QFP:LQFP-48_7x7mm_P0.5mm; Datasheet: https://www.nxp.com/docs/en/data-sheet/MC9S08DZ60.pdf
pins: 1 PTB6, 2 PTA7, 3 PTB7, 4 VDD, 5 VSS, 6 PTG0/EXTAL, 7 PTG1/XTAL, 8 ~{{RESET}}, 9 PTF4, 10 PTF5, 11 PTE0, 12 PTE1, 13 PTE2, 14 PTE3, 15 PTE4, 16 PTE5, 17 PTF0, 18 PTF1, 19 PTF2, 20 PTF3, 21 PTE6, 22 PTE7, 23 PTD0, 24 PTD1, 25 PTD2, 26 PTD3, 27 PTD4, 28 PTD5, 29 VSS, 30 VDD, 31 PTD6, 32 PTD7, 33 BKGD/MS, 34 PTB0, 35 PTA0, 36 PTB1, 37 PTA1, 38 PTB2, 39 PTA2, 40 PTB3, 41 PTA3, 42 VSSA/VREFL, 43 VDDA/VREFH, 44 PTA4, 45 PTB4, 46 PTA5, 47 PTB5, 48 PTA6

## MC9S08DN32xLC
designator *  value MC9S08DN32xLC  Reference: IC
ki_keywords: NXP S08 Microcontroller; ki_description: 8-bit Cost-Effective Microcontroller, S08 core, 32kB Flash, 1.5kB RAM, 1kB EEPROM, LQFP-32; ki_fp_filters: LQFP*7x7mm*P0.8mm*; Footprint: Package_QFP:LQFP-32_7x7mm_P0.8mm; Datasheet: https://www.nxp.com/docs/en/data-sheet/MC9S08DZ60.pdf
pins: 1 PTA7, 2 VDD, 3 VSS, 4 PTG0/EXTAL, 5 PTG1/XTAL, 6 ~{{RESET}}, 7 PTE0, 8 PTE1, 9 PTE2, 10 PTE3, 11 PTE4, 12 PTE5, 13 PTE6, 14 PTE7, 15 PTD0, 16 PTD1, 17 PTD2, 18 PTD3, 19 PTD4, 20 PTD5, 21 BKGD/MS, 22 PTB0, 23 PTA0, 24 PTB1, 25 PTA1, 26 PTA2, 27 PTA3, 28 VSSA/VREFL, 29 VDDA/VREFH, 30 PTA4, 31 PTA5, 32 PTA6

## MC9S08DN32xLF
designator *  value MC9S08DN32xLF  Reference: IC
ki_keywords: NXP S08 Microcontroller; ki_description: 8-bit Cost-Effective Microcontroller, S08 core, 32kB Flash, 1.5kB RAM, 1kB EEPROM, LQFP-48; ki_fp_filters: LQFP*7x7mm*P0.5mm*; Footprint: Package_QFP:LQFP-48_7x7mm_P0.5mm; Datasheet: https://www.nxp.com/docs/en/data-sheet/MC9S08DZ60.pdf
pins: 1 PTB6, 2 PTA7, 3 PTB7, 4 VDD, 5 VSS, 6 PTG0/EXTAL, 7 PTG1/XTAL, 8 ~{{RESET}}, 9 PTF4, 10 PTF5, 11 PTE0, 12 PTE1, 13 PTE2, 14 PTE3, 15 PTE4, 16 PTE5, 17 PTF0, 18 PTF1, 19 PTF2, 20 PTF3, 21 PTE6, 22 PTE7, 23 PTD0, 24 PTD1, 25 PTD2, 26 PTD3, 27 PTD4, 28 PTD5, 29 VSS, 30 VDD, 31 PTD6, 32 PTD7, 33 BKGD/MS, 34 PTB0, 35 PTA0, 36 PTB1, 37 PTA1, 38 PTB2, 39 PTA2, 40 PTB3, 41 PTA3, 42 VSSA/VREFL, 43 VDDA/VREFH, 44 PTA4, 45 PTB4, 46 PTA5, 47 PTB5, 48 PTA6

## MC9S08DN32xLH
designator *  value MC9S08DN32xLH  Reference: IC
ki_keywords: NXP S08 Microcontroller; ki_description: 8-bit Cost-Effective Microcontroller, S08 core, 32kB Flash, 1.5kB RAM, 1kB EEPROM, LQFP-64; ki_fp_filters: LQFP*10x10mm*P0.5mm*; Footprint: Package_QFP:LQFP-64_10x10mm_P0.5mm; Datasheet: https://www.nxp.com/docs/en/data-sheet/MC9S08DN60.pdf
pins: 1 PTB6, 2 PTC5, 3 PTA7, 4 PTC6, 5 PTB7, 6 PTC7, 7 VDD, 8 VSS, 9 PTG0/EXTAL, 10 PTG1/XTAL, 11 ~{{RESET}}, 12 PTF4, 13 PTF5, 14 PTF6, 15 PTE0, 16 PTE1, 17 PTE2, 18 PTE3, 19 PTE4, 20 PTE5, 21 PTG2, 22 PTG3, 23 PTF0, 24 PTF1, 25 PTF2, 26 PTF3, 27 PTG4, 28 PTG5, 29 PTE6, 30 PTE7, 31 PTD0, 32 PTD1, 33 PTD2, 34 PTD3, 35 PTD4, 36 PTD5, 37 PTF7, 38 VSS, 39 VDD, 40 PTD6, 41 PTD7, 42 BKGD/MS, 43 PTC0, 44 PTB0, 45 PTC1, 46 PTA0, 47 PTC2, 48 PTB1, 49 PTA1, 50 PTB2, 51 PTA2, 52 PTC3, 53 PTB3, 54 PTA3, 55 VSSA, 56 VREFL, 57 VREFH, 58 VDDA, 59 PTA4, 60 PTB4, 61 PTC4, 62 PTA5, 63 PTB5, 64 PTA6

## MC9S08DN48xLC
designator *  value MC9S08DN48xLC  Reference: IC
ki_keywords: NXP S08 Microcontroller; ki_description: 8-bit Cost-Effective Microcontroller, S08 core, 48kB Flash, 2kB RAM, 1.5kB EEPROM, LQFP-32; ki_fp_filters: LQFP*7x7mm*P0.8mm*; Footprint: Package_QFP:LQFP-32_7x7mm_P0.8mm; Datasheet: https://www.nxp.com/docs/en/data-sheet/MC9S08DZ60.pdf
pins: 1 PTA7, 2 VDD, 3 VSS, 4 PTG0/EXTAL, 5 PTG1/XTAL, 6 ~{{RESET}}, 7 PTE0, 8 PTE1, 9 PTE2, 10 PTE3, 11 PTE4, 12 PTE5, 13 PTE6, 14 PTE7, 15 PTD0, 16 PTD1, 17 PTD2, 18 PTD3, 19 PTD4, 20 PTD5, 21 BKGD/MS, 22 PTB0, 23 PTA0, 24 PTB1, 25 PTA1, 26 PTA2, 27 PTA3, 28 VSSA/VREFL, 29 VDDA/VREFH, 30 PTA4, 31 PTA5, 32 PTA6

## MC9S08DN48xLF
designator *  value MC9S08DN48xLF  Reference: IC
ki_keywords: NXP S08 Microcontroller; ki_description: 8-bit Cost-Effective Microcontroller, S08 core, 48kB Flash, 2kB RAM, 1.5kB EEPROM, LQFP-48; ki_fp_filters: LQFP*7x7mm*P0.5mm*; Footprint: Package_QFP:LQFP-48_7x7mm_P0.5mm; Datasheet: https://www.nxp.com/docs/en/data-sheet/MC9S08DZ60.pdf
pins: 1 PTB6, 2 PTA7, 3 PTB7, 4 VDD, 5 VSS, 6 PTG0/EXTAL, 7 PTG1/XTAL, 8 ~{{RESET}}, 9 PTF4, 10 PTF5, 11 PTE0, 12 PTE1, 13 PTE2, 14 PTE3, 15 PTE4, 16 PTE5, 17 PTF0, 18 PTF1, 19 PTF2, 20 PTF3, 21 PTE6, 22 PTE7, 23 PTD0, 24 PTD1, 25 PTD2, 26 PTD3, 27 PTD4, 28 PTD5, 29 VSS, 30 VDD, 31 PTD6, 32 PTD7, 33 BKGD/MS, 34 PTB0, 35 PTA0, 36 PTB1, 37 PTA1, 38 PTB2, 39 PTA2, 40 PTB3, 41 PTA3, 42 VSSA/VREFL, 43 VDDA/VREFH, 44 PTA4, 45 PTB4, 46 PTA5, 47 PTB5, 48 PTA6

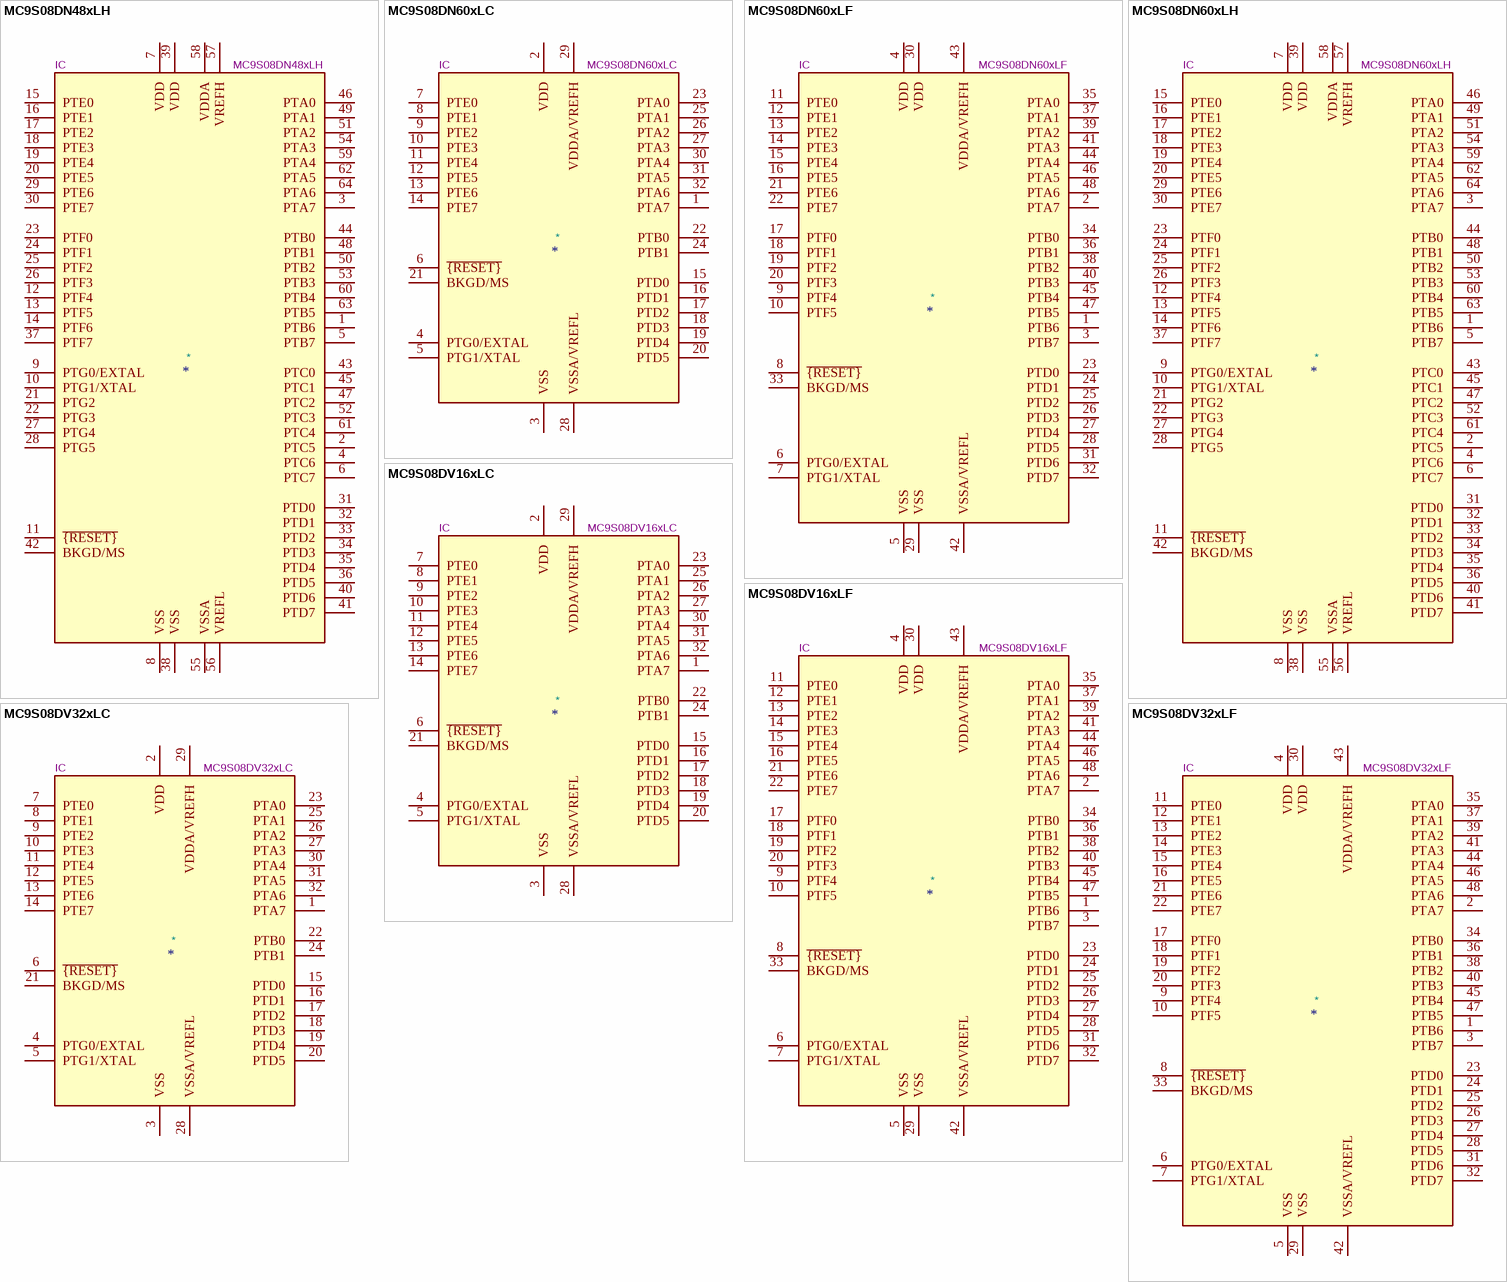
[diagram p7: symbols MC9S08DN48xLH to MC9S08DV32xLF]

## MC9S08DN48xLH
designator *  value MC9S08DN48xLH  Reference: IC
ki_keywords: NXP S08 Microcontroller; ki_description: 8-bit Cost-Effective Microcontroller, S08 core, 48kB Flash, 2kB RAM, 1.5kB EEPROM, LQFP-64; ki_fp_filters: LQFP*10x10mm*P0.5mm*; Footprint: Package_QFP:LQFP-64_10x10mm_P0.5mm; Datasheet: https://www.nxp.com/docs/en/data-sheet/MC9S08DN60.pdf
pins: 1 PTB6, 2 PTC5, 3 PTA7, 4 PTC6, 5 PTB7, 6 PTC7, 7 VDD, 8 VSS, 9 PTG0/EXTAL, 10 PTG1/XTAL, 11 ~{{RESET}}, 12 PTF4, 13 PTF5, 14 PTF6, 15 PTE0, 16 PTE1, 17 PTE2, 18 PTE3, 19 PTE4, 20 PTE5, 21 PTG2, 22 PTG3, 23 PTF0, 24 PTF1, 25 PTF2, 26 PTF3, 27 PTG4, 28 PTG5, 29 PTE6, 30 PTE7, 31 PTD0, 32 PTD1, 33 PTD2, 34 PTD3, 35 PTD4, 36 PTD5, 37 PTF7, 38 VSS, 39 VDD, 40 PTD6, 41 PTD7, 42 BKGD/MS, 43 PTC0, 44 PTB0, 45 PTC1, 46 PTA0, 47 PTC2, 48 PTB1, 49 PTA1, 50 PTB2, 51 PTA2, 52 PTC3, 53 PTB3, 54 PTA3, 55 VSSA, 56 VREFL, 57 VREFH, 58 VDDA, 59 PTA4, 60 PTB4, 61 PTC4, 62 PTA5, 63 PTB5, 64 PTA6

## MC9S08DN60xLC
designator *  value MC9S08DN60xLC  Reference: IC
ki_keywords: NXP S08 Microcontroller; ki_description: 8-bit Cost-Effective Microcontroller, S08 core, 60kB Flash, 2kB RAM, 2kB EEPROM, LQFP-32; ki_fp_filters: LQFP*7x7mm*P0.8mm*; Footprint: Package_QFP:LQFP-32_7x7mm_P0.8mm; Datasheet: https://www.nxp.com/docs/en/data-sheet/MC9S08DZ60.pdf
pins: 1 PTA7, 2 VDD, 3 VSS, 4 PTG0/EXTAL, 5 PTG1/XTAL, 6 ~{{RESET}}, 7 PTE0, 8 PTE1, 9 PTE2, 10 PTE3, 11 PTE4, 12 PTE5, 13 PTE6, 14 PTE7, 15 PTD0, 16 PTD1, 17 PTD2, 18 PTD3, 19 PTD4, 20 PTD5, 21 BKGD/MS, 22 PTB0, 23 PTA0, 24 PTB1, 25 PTA1, 26 PTA2, 27 PTA3, 28 VSSA/VREFL, 29 VDDA/VREFH, 30 PTA4, 31 PTA5, 32 PTA6

## MC9S08DN60xLF
designator *  value MC9S08DN60xLF  Reference: IC
ki_keywords: NXP S08 Microcontroller; ki_description: 8-bit Cost-Effective Microcontroller, S08 core, 60kB Flash, 2kB RAM, 2kB EEPROM, LQFP-48; ki_fp_filters: LQFP*7x7mm*P0.5mm*; Footprint: Package_QFP:LQFP-48_7x7mm_P0.5mm; Datasheet: https://www.nxp.com/docs/en/data-sheet/MC9S08DZ60.pdf
pins: 1 PTB6, 2 PTA7, 3 PTB7, 4 VDD, 5 VSS, 6 PTG0/EXTAL, 7 PTG1/XTAL, 8 ~{{RESET}}, 9 PTF4, 10 PTF5, 11 PTE0, 12 PTE1, 13 PTE2, 14 PTE3, 15 PTE4, 16 PTE5, 17 PTF0, 18 PTF1, 19 PTF2, 20 PTF3, 21 PTE6, 22 PTE7, 23 PTD0, 24 PTD1, 25 PTD2, 26 PTD3, 27 PTD4, 28 PTD5, 29 VSS, 30 VDD, 31 PTD6, 32 PTD7, 33 BKGD/MS, 34 PTB0, 35 PTA0, 36 PTB1, 37 PTA1, 38 PTB2, 39 PTA2, 40 PTB3, 41 PTA3, 42 VSSA/VREFL, 43 VDDA/VREFH, 44 PTA4, 45 PTB4, 46 PTA5, 47 PTB5, 48 PTA6